# Altium integrated library Renesas Microcontroller R8C.IntLib: 628 symbols (part 12 of 33)
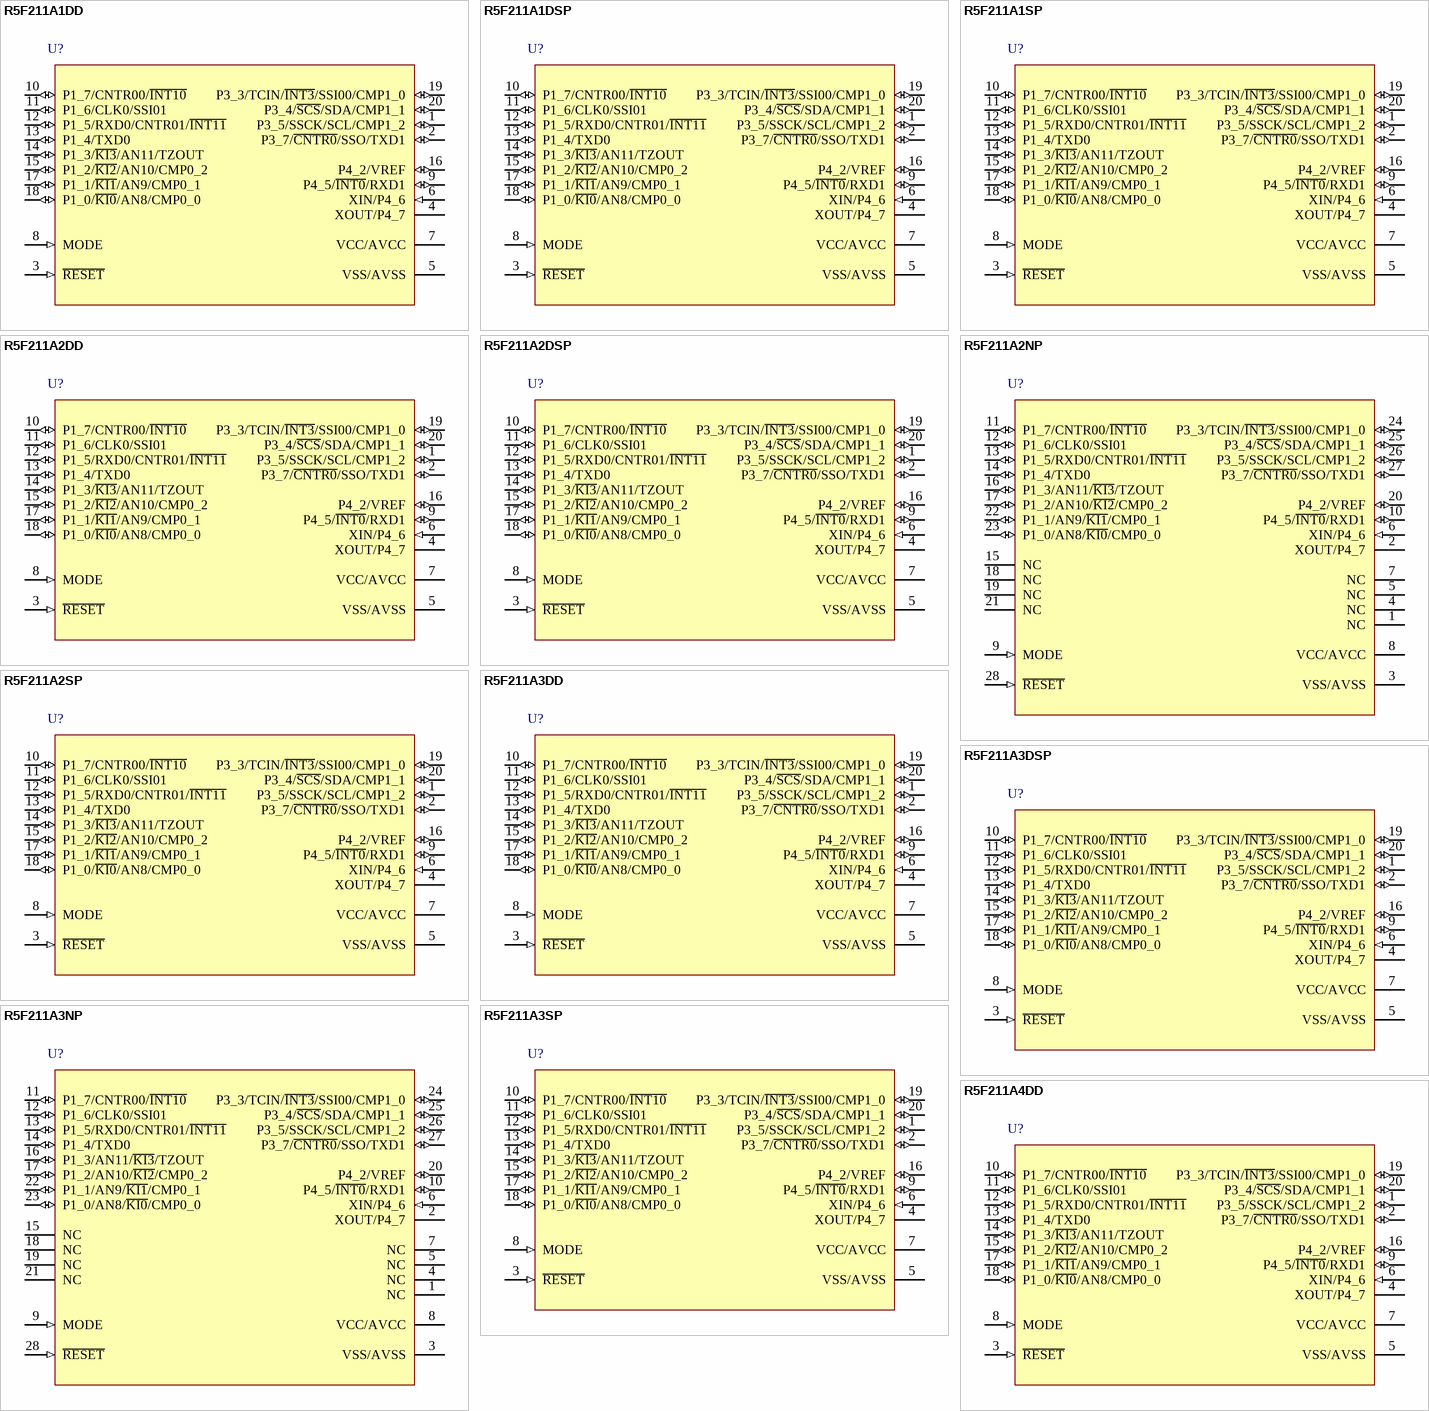
[diagram p127: symbols R5F211A1DD to R5F211A4DD]

## R5F211A2DSP
designator U?
R8C/1A Group Single Chip 16-Bit CMOS MCU, 8K ROM, D Version; Published: 30-Oct-2009; DatasheetVersion: Rev.1.40, Dec-2006; PackageVersion: Sep-2005; PackageReference: PLSP0020JB-A; Publisher: Altium Limited; PackageDescription: 20-Pin Plastic Low Profile Shrink SOP, 6.5 x 4.4 x 1.15 mm Body, 0.65 mm Pitch; Code_JEITA: P-LSSOP20-4.4x6.5-0.65; Code_JEDEC: MO-152-AC; ComponentLink1Description: Manufacturer Link; ComponentLink1URL: http://sg.renesas.com/fmwk.jsp?cnt=r8c_family_landing.jsp&fp=/products/mpumcu/r8c_family/; ComponentLink2Description: Datasheet; ComponentLink2URL: http://documentation.renesas.com/eng/products/mpumcu/rej03b0144_r8c1a1bds.pdf; ComponentLink3Description: Packaging Specification; ComponentLink3URL: http://sg.renesas.com/media/products/common_info/package/pdf/ic/code/plsp0020jb_a.pdf
footprint PLSP0020JB-A_N (SOP, 20-Leads, Body 6.5x4.4mm, Pitch 0.65mm, IPC Medium Density)
footprint PLSP0020JB-A_L (SOP, 20-Leads, Body 6.5x4.4mm, Pitch 0.65mm, IPC High Density)
footprint PLSP0020JB-A_M (SOP, 20-Leads, Body 6.5x4.4mm, Pitch 0.65mm, IPC Low Density)
pins: 1 P3_5/SSCK/SCL/CMP1_2 (io), 2 P3_7/~{CNTR0}/SSO/TXD1 (io), 3 ~{RESET} (in), 4 XOUT/P4_7, 5 VSS/AVSS (power), 6 XIN/P4_6 (in), 7 VCC/AVCC (power), 8 MODE (in), 9 P4_5/~{INT0}/RXD1 (io), 10 P1_7/CNTR00/~{INT10} (io), 11 P1_6/CLK0/SSI01 (io), 12 P1_5/RXD0/CNTR01/~{INT11} (io), 13 P1_4/TXD0 (io), 14 P1_3/~{KI3}/AN11/TZOUT (io), 15 P1_2/~{KI2}/AN10/CMP0_2 (io), 16 P4_2/VREF (io), 17 P1_1/~{KI1}/AN9/CMP0_1 (io), 18 P1_0/~{KI0}/AN8/CMP0_0 (io), 19 P3_3/TCIN/~{INT3}/SSI00/CMP1_0 (io), 20 P3_4/~{SCS}/SDA/CMP1_1 (io)

## R5F211A2NP
designator U?
R8C/1A Group Single Chip 16-Bit CMOS MCU, 8K ROM, Standard Version; Published: 30-Oct-2009; DatasheetVersion: Rev.1.40, Dec-2006; PackageVersion: Jun-2006; PackageReference: PWQN0028KA-B; Publisher: Altium Limited; PackageDescription: 28-Pin Plastic Very-very Thin QFN, 5 x 5 X 0.75 mm Body, 0.5 mm Pitch, Exposed Pad; Code_JEITA: P-HWQFN28-5x5-0.50; ComponentLink1Description: Manufacturer Link; ComponentLink1URL: http://sg.renesas.com/fmwk.jsp?cnt=r8c_family_landing.jsp&fp=/products/mpumcu/r8c_family/; ComponentLink2Description: Datasheet; ComponentLink2URL: http://documentation.renesas.com/eng/products/mpumcu/rej03b0144_r8c1a1bds.pdf; ComponentLink3Description: Packaging Specification; ComponentLink3URL: http://sg.renesas.com/media/products/common_info/package/pdf/ic/code/pwqn0028ka_b.pdf
footprint PWQN0028KA-B_N (QFN, 28-Leads, Body 5x5mm, Pitch 0.5mm, IPC Medium Density)
footprint PWQN0028KA-B_L (QFN, 28-Leads, Body 5x5mm, Pitch 0.5mm, IPC High Density)
footprint PWQN0028KA-B_M (QFN, 28-Leads, Body 5x5mm, Pitch 0.5mm, IPC Low Density)
pins: 1 NC, 2 XOUT/P4_7, 3 VSS/AVSS (power), 4 NC, 5 NC, 6 XIN/P4_6 (in), 7 NC, 8 VCC/AVCC (power), 9 MODE (in), 10 P4_5/~{INT0}/RXD1 (io), 11 P1_7/CNTR00/~{INT10} (io), 12 P1_6/CLK0/SSI01 (io), 13 P1_5/RXD0/CNTR01/~{INT11} (io), 14 P1_4/TXD0 (io), 15 NC, 16 P1_3/AN11/~{KI3}/TZOUT (io), 17 P1_2/AN10/~{KI2}/CMP0_2 (io), 18 NC, 19 NC, 20 P4_2/VREF (io), 21 NC, 22 P1_1/AN9/~{KI1}/CMP0_1 (io), 23 P1_0/AN8/~{KI0}/CMP0_0 (io), 24 P3_3/TCIN/~{INT3}/SSI00/CMP1_0 (io), 25 P3_4/~{SCS}/SDA/CMP1_1 (io), 26 P3_5/SSCK/SCL/CMP1_2 (io), 27 P3_7/~{CNTR0}/SSO/TXD1 (io), 28 ~{RESET} (in)

## R5F211A2SP
designator U?
R8C/1A Group Single Chip 16-Bit CMOS MCU, 8K ROM, Standard Version; Published: 30-Oct-2009; DatasheetVersion: Rev.1.40, Dec-2006; PackageVersion: Sep-2005; PackageReference: PLSP0020JB-A; Publisher: Altium Limited; PackageDescription: 20-Pin Plastic Low Profile Shrink SOP, 6.5 x 4.4 x 1.15 mm Body, 0.65 mm Pitch; Code_JEITA: P-LSSOP20-4.4x6.5-0.65; Code_JEDEC: MO-152-AC; ComponentLink1Description: Manufacturer Link; ComponentLink1URL: http://sg.renesas.com/fmwk.jsp?cnt=r8c_family_landing.jsp&fp=/products/mpumcu/r8c_family/; ComponentLink2Description: Datasheet; ComponentLink2URL: http://documentation.renesas.com/eng/products/mpumcu/rej03b0144_r8c1a1bds.pdf; ComponentLink3Description: Packaging Specification; ComponentLink3URL: http://sg.renesas.com/media/products/common_info/package/pdf/ic/code/plsp0020jb_a.pdf
footprint PLSP0020JB-A_N (SOP, 20-Leads, Body 6.5x4.4mm, Pitch 0.65mm, IPC Medium Density)
footprint PLSP0020JB-A_L (SOP, 20-Leads, Body 6.5x4.4mm, Pitch 0.65mm, IPC High Density)
footprint PLSP0020JB-A_M (SOP, 20-Leads, Body 6.5x4.4mm, Pitch 0.65mm, IPC Low Density)
pins: 1 P3_5/SSCK/SCL/CMP1_2 (io), 2 P3_7/~{CNTR0}/SSO/TXD1 (io), 3 ~{RESET} (in), 4 XOUT/P4_7, 5 VSS/AVSS (power), 6 XIN/P4_6 (in), 7 VCC/AVCC (power), 8 MODE (in), 9 P4_5/~{INT0}/RXD1 (io), 10 P1_7/CNTR00/~{INT10} (io), 11 P1_6/CLK0/SSI01 (io), 12 P1_5/RXD0/CNTR01/~{INT11} (io), 13 P1_4/TXD0 (io), 14 P1_3/~{KI3}/AN11/TZOUT (io), 15 P1_2/~{KI2}/AN10/CMP0_2 (io), 16 P4_2/VREF (io), 17 P1_1/~{KI1}/AN9/CMP0_1 (io), 18 P1_0/~{KI0}/AN8/CMP0_0 (io), 19 P3_3/TCIN/~{INT3}/SSI00/CMP1_0 (io), 20 P3_4/~{SCS}/SDA/CMP1_1 (io)

## R5F211A3DD
designator U?
R8C/1A Group Single Chip 16-Bit CMOS MCU, 12K ROM, Standard Version; Published: 30-Oct-2009; DatasheetVersion: Rev.1.40, Dec-2006; PackageVersion: Sep-2005; PackageReference: PRDP0020BA-A; Publisher: Altium Limited; PackageDescription: 20-Pin Plastic Shrink DIP, 19 x 6.3 mm Body, 7.62 mm Row Spacing, 1.778 mm Pitch; Code_JEITA: P-SDIP20-6.3x19-1.78; ComponentLink1Description: Manufacturer Link; ComponentLink1URL: http://sg.renesas.com/fmwk.jsp?cnt=r8c_family_landing.jsp&fp=/products/mpumcu/r8c_family/; ComponentLink2Description: Datasheet; ComponentLink2URL: http://documentation.renesas.com/eng/products/mpumcu/rej03b0144_r8c1a1bds.pdf; ComponentLink3Description: Packaging Specification; ComponentLink3URL: http://sg.renesas.com/media/products/common_info/package/pdf/ic/code/prdp0020ba_a.pdf
footprint PRDP0020BA-A (DIP, 20-Leads, Row Spacing 7.62mm, Pitch 1.778mm, Body 19x6.3mm)
pins: 1 P3_5/SSCK/SCL/CMP1_2 (io), 2 P3_7/~{CNTR0}/SSO/TXD1 (io), 3 ~{RESET} (in), 4 XOUT/P4_7, 5 VSS/AVSS (power), 6 XIN/P4_6 (in), 7 VCC/AVCC (power), 8 MODE (in), 9 P4_5/~{INT0}/RXD1 (io), 10 P1_7/CNTR00/~{INT10} (io), 11 P1_6/CLK0/SSI01 (io), 12 P1_5/RXD0/CNTR01/~{INT11} (io), 13 P1_4/TXD0 (io), 14 P1_3/~{KI3}/AN11/TZOUT (io), 15 P1_2/~{KI2}/AN10/CMP0_2 (io), 16 P4_2/VREF (io), 17 P1_1/~{KI1}/AN9/CMP0_1 (io), 18 P1_0/~{KI0}/AN8/CMP0_0 (io), 19 P3_3/TCIN/~{INT3}/SSI00/CMP1_0 (io), 20 P3_4/~{SCS}/SDA/CMP1_1 (io)

## R5F211A3DSP
designator U?
R8C/1A Group Single Chip 16-Bit CMOS MCU, 12K ROM, D Version; Published: 30-Oct-2009; DatasheetVersion: Rev.1.40, Dec-2006; PackageVersion: Sep-2005; PackageReference: PLSP0020JB-A; Publisher: Altium Limited; PackageDescription: 20-Pin Plastic Low Profile Shrink SOP, 6.5 x 4.4 x 1.15 mm Body, 0.65 mm Pitch; Code_JEITA: P-LSSOP20-4.4x6.5-0.65; Code_JEDEC: MO-152-AC; ComponentLink1Description: Manufacturer Link; ComponentLink1URL: http://sg.renesas.com/fmwk.jsp?cnt=r8c_family_landing.jsp&fp=/products/mpumcu/r8c_family/; ComponentLink2Description: Datasheet; ComponentLink2URL: http://documentation.renesas.com/eng/products/mpumcu/rej03b0144_r8c1a1bds.pdf; ComponentLink3Description: Packaging Specification; ComponentLink3URL: http://sg.renesas.com/media/products/common_info/package/pdf/ic/code/plsp0020jb_a.pdf
footprint PLSP0020JB-A_N (SOP, 20-Leads, Body 6.5x4.4mm, Pitch 0.65mm, IPC Medium Density)
footprint PLSP0020JB-A_L (SOP, 20-Leads, Body 6.5x4.4mm, Pitch 0.65mm, IPC High Density)
footprint PLSP0020JB-A_M (SOP, 20-Leads, Body 6.5x4.4mm, Pitch 0.65mm, IPC Low Density)
pins: 1 P3_5/SSCK/SCL/CMP1_2 (io), 2 P3_7/~{CNTR0}/SSO/TXD1 (io), 3 ~{RESET} (in), 4 XOUT/P4_7, 5 VSS/AVSS (power), 6 XIN/P4_6 (in), 7 VCC/AVCC (power), 8 MODE (in), 9 P4_5/~{INT0}/RXD1 (io), 10 P1_7/CNTR00/~{INT10} (io), 11 P1_6/CLK0/SSI01 (io), 12 P1_5/RXD0/CNTR01/~{INT11} (io), 13 P1_4/TXD0 (io), 14 P1_3/~{KI3}/AN11/TZOUT (io), 15 P1_2/~{KI2}/AN10/CMP0_2 (io), 16 P4_2/VREF (io), 17 P1_1/~{KI1}/AN9/CMP0_1 (io), 18 P1_0/~{KI0}/AN8/CMP0_0 (io), 19 P3_3/TCIN/~{INT3}/SSI00/CMP1_0 (io), 20 P3_4/~{SCS}/SDA/CMP1_1 (io)

## R5F211A3NP
designator U?
R8C/1A Group Single Chip 16-Bit CMOS MCU, 12K ROM, Standard Version; Published: 30-Oct-2009; DatasheetVersion: Rev.1.40, Dec-2006; PackageVersion: Jun-2006; PackageReference: PWQN0028KA-B; Publisher: Altium Limited; PackageDescription: 28-Pin Plastic Very-very Thin QFN, 5 x 5 X 0.75 mm Body, 0.5 mm Pitch, Exposed Pad; Code_JEITA: P-HWQFN28-5x5-0.50; ComponentLink1Description: Manufacturer Link; ComponentLink1URL: http://sg.renesas.com/fmwk.jsp?cnt=r8c_family_landing.jsp&fp=/products/mpumcu/r8c_family/; ComponentLink2Description: Datasheet; ComponentLink2URL: http://documentation.renesas.com/eng/products/mpumcu/rej03b0144_r8c1a1bds.pdf; ComponentLink3Description: Packaging Specification; ComponentLink3URL: http://sg.renesas.com/media/products/common_info/package/pdf/ic/code/pwqn0028ka_b.pdf
footprint PWQN0028KA-B_N (QFN, 28-Leads, Body 5x5mm, Pitch 0.5mm, IPC Medium Density)
footprint PWQN0028KA-B_L (QFN, 28-Leads, Body 5x5mm, Pitch 0.5mm, IPC High Density)
footprint PWQN0028KA-B_M (QFN, 28-Leads, Body 5x5mm, Pitch 0.5mm, IPC Low Density)
pins: 1 NC, 2 XOUT/P4_7, 3 VSS/AVSS (power), 4 NC, 5 NC, 6 XIN/P4_6 (in), 7 NC, 8 VCC/AVCC (power), 9 MODE (in), 10 P4_5/~{INT0}/RXD1 (io), 11 P1_7/CNTR00/~{INT10} (io), 12 P1_6/CLK0/SSI01 (io), 13 P1_5/RXD0/CNTR01/~{INT11} (io), 14 P1_4/TXD0 (io), 15 NC, 16 P1_3/AN11/~{KI3}/TZOUT (io), 17 P1_2/AN10/~{KI2}/CMP0_2 (io), 18 NC, 19 NC, 20 P4_2/VREF (io), 21 NC, 22 P1_1/AN9/~{KI1}/CMP0_1 (io), 23 P1_0/AN8/~{KI0}/CMP0_0 (io), 24 P3_3/TCIN/~{INT3}/SSI00/CMP1_0 (io), 25 P3_4/~{SCS}/SDA/CMP1_1 (io), 26 P3_5/SSCK/SCL/CMP1_2 (io), 27 P3_7/~{CNTR0}/SSO/TXD1 (io), 28 ~{RESET} (in)

## R5F211A3SP
designator U?
R8C/1A Group Single Chip 16-Bit CMOS MCU, 12K ROM, Standard Version; Published: 30-Oct-2009; DatasheetVersion: Rev.1.40, Dec-2006; PackageVersion: Sep-2005; PackageReference: PLSP0020JB-A; Publisher: Altium Limited; PackageDescription: 20-Pin Plastic Low Profile Shrink SOP, 6.5 x 4.4 x 1.15 mm Body, 0.65 mm Pitch; Code_JEITA: P-LSSOP20-4.4x6.5-0.65; Code_JEDEC: MO-152-AC; ComponentLink1Description: Manufacturer Link; ComponentLink1URL: http://sg.renesas.com/fmwk.jsp?cnt=r8c_family_landing.jsp&fp=/products/mpumcu/r8c_family/; ComponentLink2Description: Datasheet; ComponentLink2URL: http://documentation.renesas.com/eng/products/mpumcu/rej03b0144_r8c1a1bds.pdf; ComponentLink3Description: Packaging Specification; ComponentLink3URL: http://sg.renesas.com/media/products/common_info/package/pdf/ic/code/plsp0020jb_a.pdf
footprint PLSP0020JB-A_N (SOP, 20-Leads, Body 6.5x4.4mm, Pitch 0.65mm, IPC Medium Density)
footprint PLSP0020JB-A_L (SOP, 20-Leads, Body 6.5x4.4mm, Pitch 0.65mm, IPC High Density)
footprint PLSP0020JB-A_M (SOP, 20-Leads, Body 6.5x4.4mm, Pitch 0.65mm, IPC Low Density)
pins: 1 P3_5/SSCK/SCL/CMP1_2 (io), 2 P3_7/~{CNTR0}/SSO/TXD1 (io), 3 ~{RESET} (in), 4 XOUT/P4_7, 5 VSS/AVSS (power), 6 XIN/P4_6 (in), 7 VCC/AVCC (power), 8 MODE (in), 9 P4_5/~{INT0}/RXD1 (io), 10 P1_7/CNTR00/~{INT10} (io), 11 P1_6/CLK0/SSI01 (io), 12 P1_5/RXD0/CNTR01/~{INT11} (io), 13 P1_4/TXD0 (io), 14 P1_3/~{KI3}/AN11/TZOUT (io), 15 P1_2/~{KI2}/AN10/CMP0_2 (io), 16 P4_2/VREF (io), 17 P1_1/~{KI1}/AN9/CMP0_1 (io), 18 P1_0/~{KI0}/AN8/CMP0_0 (io), 19 P3_3/TCIN/~{INT3}/SSI00/CMP1_0 (io), 20 P3_4/~{SCS}/SDA/CMP1_1 (io)

## R5F211A4DD
designator U?
R8C/1A Group Single Chip 16-Bit CMOS MCU, 16K ROM, Standard Version; Published: 30-Oct-2009; DatasheetVersion: Rev.1.40, Dec-2006; PackageVersion: Sep-2005; PackageReference: PRDP0020BA-A; Publisher: Altium Limited; PackageDescription: 20-Pin Plastic Shrink DIP, 19 x 6.3 mm Body, 7.62 mm Row Spacing, 1.778 mm Pitch; Code_JEITA: P-SDIP20-6.3x19-1.78; ComponentLink1Description: Manufacturer Link; ComponentLink1URL: http://sg.renesas.com/fmwk.jsp?cnt=r8c_family_landing.jsp&fp=/products/mpumcu/r8c_family/; ComponentLink2Description: Datasheet; ComponentLink2URL: http://documentation.renesas.com/eng/products/mpumcu/rej03b0144_r8c1a1bds.pdf; ComponentLink3Description: Packaging Specification; ComponentLink3URL: http://sg.renesas.com/media/products/common_info/package/pdf/ic/code/prdp0020ba_a.pdf
footprint PRDP0020BA-A (DIP, 20-Leads, Row Spacing 7.62mm, Pitch 1.778mm, Body 19x6.3mm)
pins: 1 P3_5/SSCK/SCL/CMP1_2 (io), 2 P3_7/~{CNTR0}/SSO/TXD1 (io), 3 ~{RESET} (in), 4 XOUT/P4_7, 5 VSS/AVSS (power), 6 XIN/P4_6 (in), 7 VCC/AVCC (power), 8 MODE (in), 9 P4_5/~{INT0}/RXD1 (io), 10 P1_7/CNTR00/~{INT10} (io), 11 P1_6/CLK0/SSI01 (io), 12 P1_5/RXD0/CNTR01/~{INT11} (io), 13 P1_4/TXD0 (io), 14 P1_3/~{KI3}/AN11/TZOUT (io), 15 P1_2/~{KI2}/AN10/CMP0_2 (io), 16 P4_2/VREF (io), 17 P1_1/~{KI1}/AN9/CMP0_1 (io), 18 P1_0/~{KI0}/AN8/CMP0_0 (io), 19 P3_3/TCIN/~{INT3}/SSI00/CMP1_0 (io), 20 P3_4/~{SCS}/SDA/CMP1_1 (io)

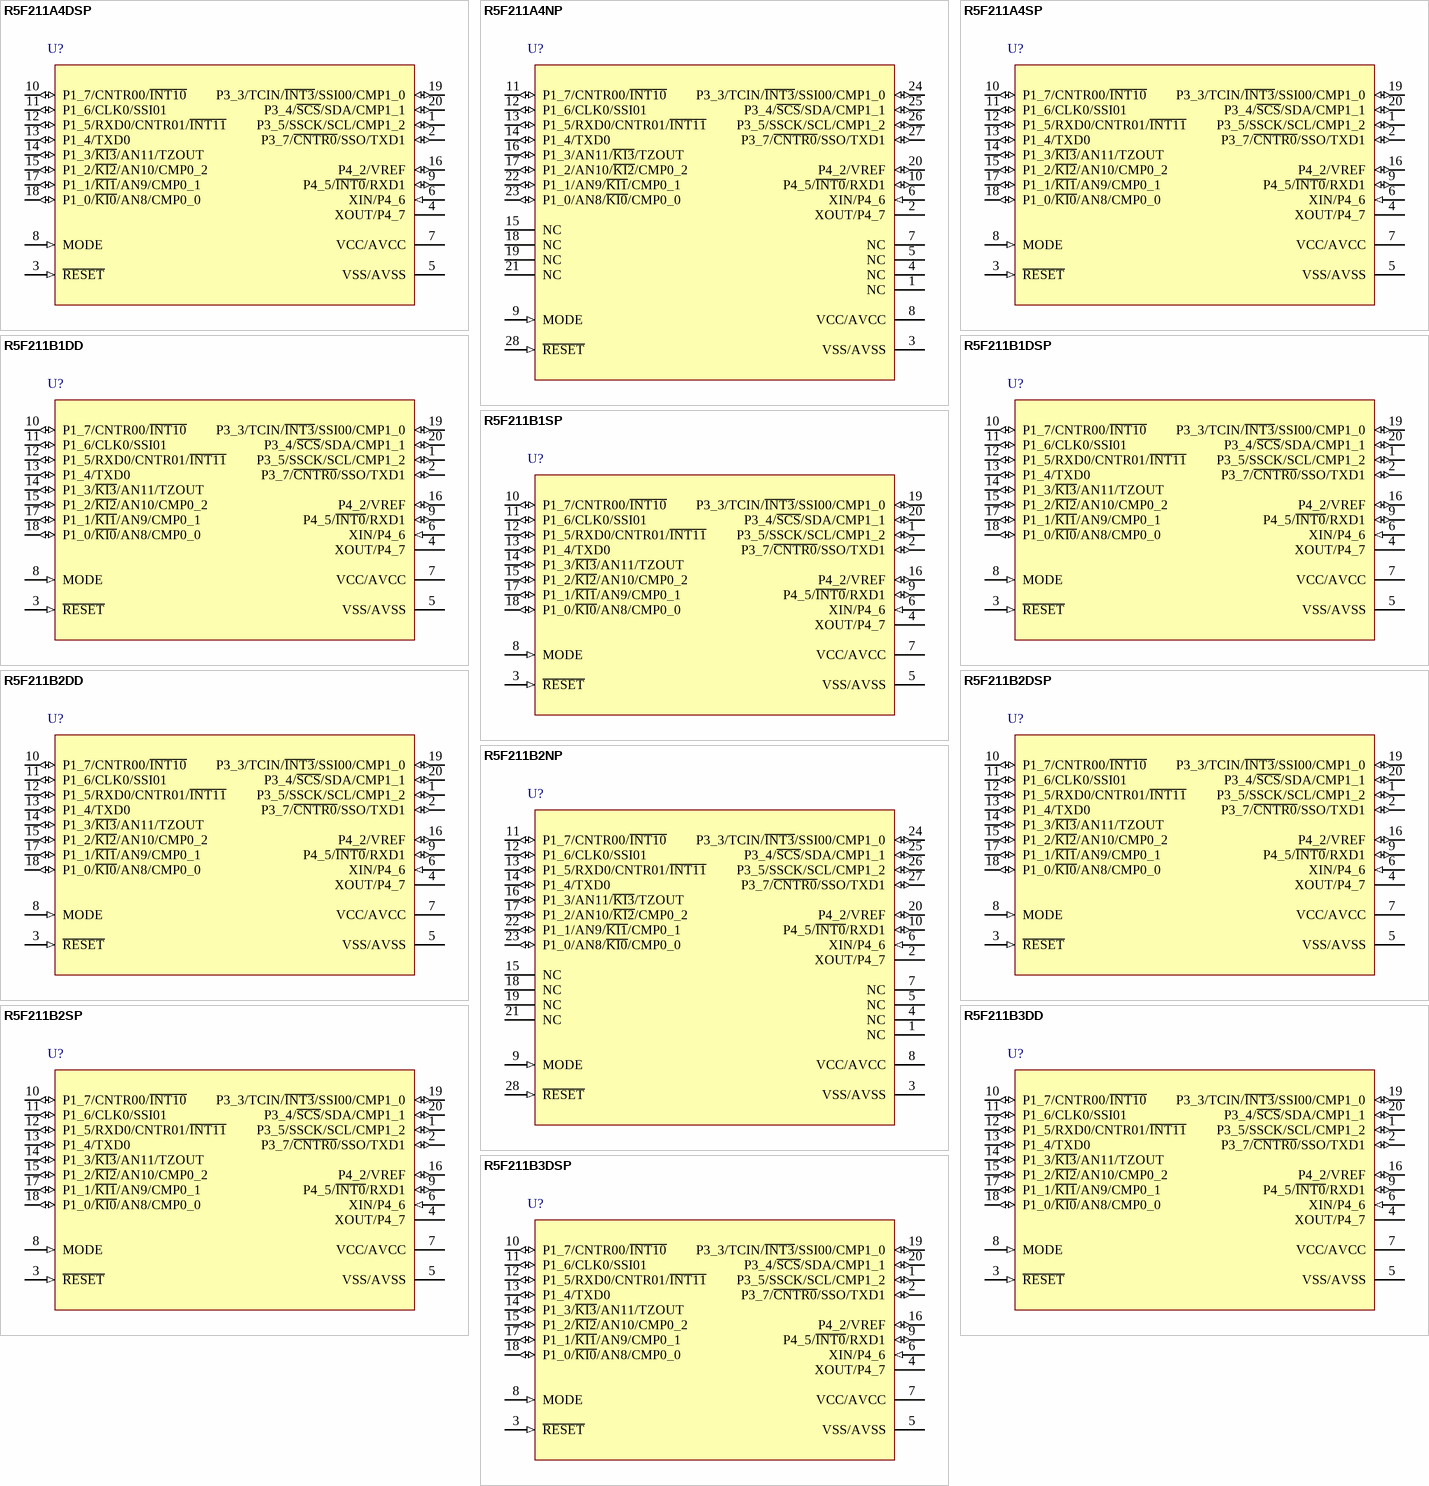
[diagram p43: symbols R5F211A4DSP to R5F211B3DSP]

## R5F211A4DSP
designator U?
R8C/1A Group Single Chip 16-Bit CMOS MCU, 16K ROM, D Version; Published: 30-Oct-2009; DatasheetVersion: Rev.1.40, Dec-2006; PackageVersion: Sep-2005; PackageReference: PLSP0020JB-A; Publisher: Altium Limited; PackageDescription: 20-Pin Plastic Low Profile Shrink SOP, 6.5 x 4.4 x 1.15 mm Body, 0.65 mm Pitch; Code_JEITA: P-LSSOP20-4.4x6.5-0.65; Code_JEDEC: MO-152-AC; ComponentLink1Description: Manufacturer Link; ComponentLink1URL: http://sg.renesas.com/fmwk.jsp?cnt=r8c_family_landing.jsp&fp=/products/mpumcu/r8c_family/; ComponentLink2Description: Datasheet; ComponentLink2URL: http://documentation.renesas.com/eng/products/mpumcu/rej03b0144_r8c1a1bds.pdf; ComponentLink3Description: Packaging Specification; ComponentLink3URL: http://sg.renesas.com/media/products/common_info/package/pdf/ic/code/plsp0020jb_a.pdf
footprint PLSP0020JB-A_N (SOP, 20-Leads, Body 6.5x4.4mm, Pitch 0.65mm, IPC Medium Density)
footprint PLSP0020JB-A_L (SOP, 20-Leads, Body 6.5x4.4mm, Pitch 0.65mm, IPC High Density)
footprint PLSP0020JB-A_M (SOP, 20-Leads, Body 6.5x4.4mm, Pitch 0.65mm, IPC Low Density)
pins: 1 P3_5/SSCK/SCL/CMP1_2 (io), 2 P3_7/~{CNTR0}/SSO/TXD1 (io), 3 ~{RESET} (in), 4 XOUT/P4_7, 5 VSS/AVSS (power), 6 XIN/P4_6 (in), 7 VCC/AVCC (power), 8 MODE (in), 9 P4_5/~{INT0}/RXD1 (io), 10 P1_7/CNTR00/~{INT10} (io), 11 P1_6/CLK0/SSI01 (io), 12 P1_5/RXD0/CNTR01/~{INT11} (io), 13 P1_4/TXD0 (io), 14 P1_3/~{KI3}/AN11/TZOUT (io), 15 P1_2/~{KI2}/AN10/CMP0_2 (io), 16 P4_2/VREF (io), 17 P1_1/~{KI1}/AN9/CMP0_1 (io), 18 P1_0/~{KI0}/AN8/CMP0_0 (io), 19 P3_3/TCIN/~{INT3}/SSI00/CMP1_0 (io), 20 P3_4/~{SCS}/SDA/CMP1_1 (io)

## R5F211A4NP
designator U?
R8C/1A Group Single Chip 16-Bit CMOS MCU, 16K ROM, Standard Version; Published: 30-Oct-2009; DatasheetVersion: Rev.1.40, Dec-2006; PackageVersion: Jun-2006; PackageReference: PWQN0028KA-B; Publisher: Altium Limited; PackageDescription: 28-Pin Plastic Very-very Thin QFN, 5 x 5 X 0.75 mm Body, 0.5 mm Pitch, Exposed Pad; Code_JEITA: P-HWQFN28-5x5-0.50; ComponentLink1Description: Manufacturer Link; ComponentLink1URL: http://sg.renesas.com/fmwk.jsp?cnt=r8c_family_landing.jsp&fp=/products/mpumcu/r8c_family/; ComponentLink2Description: Datasheet; ComponentLink2URL: http://documentation.renesas.com/eng/products/mpumcu/rej03b0144_r8c1a1bds.pdf; ComponentLink3Description: Packaging Specification; ComponentLink3URL: http://sg.renesas.com/media/products/common_info/package/pdf/ic/code/pwqn0028ka_b.pdf
footprint PWQN0028KA-B_N (QFN, 28-Leads, Body 5x5mm, Pitch 0.5mm, IPC Medium Density)
footprint PWQN0028KA-B_L (QFN, 28-Leads, Body 5x5mm, Pitch 0.5mm, IPC High Density)
footprint PWQN0028KA-B_M (QFN, 28-Leads, Body 5x5mm, Pitch 0.5mm, IPC Low Density)
pins: 1 NC, 2 XOUT/P4_7, 3 VSS/AVSS (power), 4 NC, 5 NC, 6 XIN/P4_6 (in), 7 NC, 8 VCC/AVCC (power), 9 MODE (in), 10 P4_5/~{INT0}/RXD1 (io), 11 P1_7/CNTR00/~{INT10} (io), 12 P1_6/CLK0/SSI01 (io), 13 P1_5/RXD0/CNTR01/~{INT11} (io), 14 P1_4/TXD0 (io), 15 NC, 16 P1_3/AN11/~{KI3}/TZOUT (io), 17 P1_2/AN10/~{KI2}/CMP0_2 (io), 18 NC, 19 NC, 20 P4_2/VREF (io), 21 NC, 22 P1_1/AN9/~{KI1}/CMP0_1 (io), 23 P1_0/AN8/~{KI0}/CMP0_0 (io), 24 P3_3/TCIN/~{INT3}/SSI00/CMP1_0 (io), 25 P3_4/~{SCS}/SDA/CMP1_1 (io), 26 P3_5/SSCK/SCL/CMP1_2 (io), 27 P3_7/~{CNTR0}/SSO/TXD1 (io), 28 ~{RESET} (in)

## R5F211A4SP
designator U?
R8C/1A Group Single Chip 16-Bit CMOS MCU, 16K ROM, Standard Version; Published: 30-Oct-2009; DatasheetVersion: Rev.1.40, Dec-2006; PackageVersion: Sep-2005; PackageReference: PLSP0020JB-A; Publisher: Altium Limited; PackageDescription: 20-Pin Plastic Low Profile Shrink SOP, 6.5 x 4.4 x 1.15 mm Body, 0.65 mm Pitch; Code_JEITA: P-LSSOP20-4.4x6.5-0.65; Code_JEDEC: MO-152-AC; ComponentLink1Description: Manufacturer Link; ComponentLink1URL: http://sg.renesas.com/fmwk.jsp?cnt=r8c_family_landing.jsp&fp=/products/mpumcu/r8c_family/; ComponentLink2Description: Datasheet; ComponentLink2URL: http://documentation.renesas.com/eng/products/mpumcu/rej03b0144_r8c1a1bds.pdf; ComponentLink3Description: Packaging Specification; ComponentLink3URL: http://sg.renesas.com/media/products/common_info/package/pdf/ic/code/plsp0020jb_a.pdf
footprint PLSP0020JB-A_N (SOP, 20-Leads, Body 6.5x4.4mm, Pitch 0.65mm, IPC Medium Density)
footprint PLSP0020JB-A_L (SOP, 20-Leads, Body 6.5x4.4mm, Pitch 0.65mm, IPC High Density)
footprint PLSP0020JB-A_M (SOP, 20-Leads, Body 6.5x4.4mm, Pitch 0.65mm, IPC Low Density)
pins: 1 P3_5/SSCK/SCL/CMP1_2 (io), 2 P3_7/~{CNTR0}/SSO/TXD1 (io), 3 ~{RESET} (in), 4 XOUT/P4_7, 5 VSS/AVSS (power), 6 XIN/P4_6 (in), 7 VCC/AVCC (power), 8 MODE (in), 9 P4_5/~{INT0}/RXD1 (io), 10 P1_7/CNTR00/~{INT10} (io), 11 P1_6/CLK0/SSI01 (io), 12 P1_5/RXD0/CNTR01/~{INT11} (io), 13 P1_4/TXD0 (io), 14 P1_3/~{KI3}/AN11/TZOUT (io), 15 P1_2/~{KI2}/AN10/CMP0_2 (io), 16 P4_2/VREF (io), 17 P1_1/~{KI1}/AN9/CMP0_1 (io), 18 P1_0/~{KI0}/AN8/CMP0_0 (io), 19 P3_3/TCIN/~{INT3}/SSI00/CMP1_0 (io), 20 P3_4/~{SCS}/SDA/CMP1_1 (io)

## R5F211B1DD
designator U?
R8C/1B Group Single Chip 16-Bit CMOS MCU, 4K ROM, Standard Version; Published: 30-Oct-2009; DatasheetVersion: Rev.1.40, Dec-2006; PackageVersion: Sep-2005; PackageReference: PRDP0020BA-A; Publisher: Altium Limited; PackageDescription: 20-Pin Plastic Shrink DIP, 19 x 6.3 mm Body, 7.62 mm Row Spacing, 1.778 mm Pitch; Code_JEITA: P-SDIP20-6.3x19-1.78; ComponentLink1Description: Manufacturer Link; ComponentLink1URL: http://sg.renesas.com/fmwk.jsp?cnt=r8c_family_landing.jsp&fp=/products/mpumcu/r8c_family/; ComponentLink2Description: Datasheet; ComponentLink2URL: http://documentation.renesas.com/eng/products/mpumcu/rej03b0144_r8c1a1bds.pdf; ComponentLink3Description: Packaging Specification; ComponentLink3URL: http://sg.renesas.com/media/products/common_info/package/pdf/ic/code/prdp0020ba_a.pdf
footprint PRDP0020BA-A (DIP, 20-Leads, Row Spacing 7.62mm, Pitch 1.778mm, Body 19x6.3mm)
pins: 1 P3_5/SSCK/SCL/CMP1_2 (io), 2 P3_7/~{CNTR0}/SSO/TXD1 (io), 3 ~{RESET} (in), 4 XOUT/P4_7, 5 VSS/AVSS (power), 6 XIN/P4_6 (in), 7 VCC/AVCC (power), 8 MODE (in), 9 P4_5/~{INT0}/RXD1 (io), 10 P1_7/CNTR00/~{INT10} (io), 11 P1_6/CLK0/SSI01 (io), 12 P1_5/RXD0/CNTR01/~{INT11} (io), 13 P1_4/TXD0 (io), 14 P1_3/~{KI3}/AN11/TZOUT (io), 15 P1_2/~{KI2}/AN10/CMP0_2 (io), 16 P4_2/VREF (io), 17 P1_1/~{KI1}/AN9/CMP0_1 (io), 18 P1_0/~{KI0}/AN8/CMP0_0 (io), 19 P3_3/TCIN/~{INT3}/SSI00/CMP1_0 (io), 20 P3_4/~{SCS}/SDA/CMP1_1 (io)

## R5F211B1DSP
designator U?
R8C/1B Group Single Chip 16-Bit CMOS MCU, 4K ROM, D Version; Published: 30-Oct-2009; DatasheetVersion: Rev.1.40, Dec-2006; PackageVersion: Sep-2005; PackageReference: PLSP0020JB-A; Publisher: Altium Limited; PackageDescription: 20-Pin Plastic Low Profile Shrink SOP, 6.5 x 4.4 x 1.15 mm Body, 0.65 mm Pitch; Code_JEITA: P-LSSOP20-4.4x6.5-0.65; Code_JEDEC: MO-152-AC; ComponentLink1Description: Manufacturer Link; ComponentLink1URL: http://sg.renesas.com/fmwk.jsp?cnt=r8c_family_landing.jsp&fp=/products/mpumcu/r8c_family/; ComponentLink2Description: Datasheet; ComponentLink2URL: http://documentation.renesas.com/eng/products/mpumcu/rej03b0144_r8c1a1bds.pdf; ComponentLink3Description: Packaging Specification; ComponentLink3URL: http://sg.renesas.com/media/products/common_info/package/pdf/ic/code/plsp0020jb_a.pdf
footprint PLSP0020JB-A_N (SOP, 20-Leads, Body 6.5x4.4mm, Pitch 0.65mm, IPC Medium Density)
footprint PLSP0020JB-A_L (SOP, 20-Leads, Body 6.5x4.4mm, Pitch 0.65mm, IPC High Density)
footprint PLSP0020JB-A_M (SOP, 20-Leads, Body 6.5x4.4mm, Pitch 0.65mm, IPC Low Density)
pins: 1 P3_5/SSCK/SCL/CMP1_2 (io), 2 P3_7/~{CNTR0}/SSO/TXD1 (io), 3 ~{RESET} (in), 4 XOUT/P4_7, 5 VSS/AVSS (power), 6 XIN/P4_6 (in), 7 VCC/AVCC (power), 8 MODE (in), 9 P4_5/~{INT0}/RXD1 (io), 10 P1_7/CNTR00/~{INT10} (io), 11 P1_6/CLK0/SSI01 (io), 12 P1_5/RXD0/CNTR01/~{INT11} (io), 13 P1_4/TXD0 (io), 14 P1_3/~{KI3}/AN11/TZOUT (io), 15 P1_2/~{KI2}/AN10/CMP0_2 (io), 16 P4_2/VREF (io), 17 P1_1/~{KI1}/AN9/CMP0_1 (io), 18 P1_0/~{KI0}/AN8/CMP0_0 (io), 19 P3_3/TCIN/~{INT3}/SSI00/CMP1_0 (io), 20 P3_4/~{SCS}/SDA/CMP1_1 (io)

## R5F211B1SP
designator U?
R8C/1B Group Single Chip 16-Bit CMOS MCU, 4K ROM, Standard Version; Published: 30-Oct-2009; DatasheetVersion: Rev.1.40, Dec-2006; PackageVersion: Sep-2005; PackageReference: PLSP0020JB-A; Publisher: Altium Limited; PackageDescription: 20-Pin Plastic Low Profile Shrink SOP, 6.5 x 4.4 x 1.15 mm Body, 0.65 mm Pitch; Code_JEITA: P-LSSOP20-4.4x6.5-0.65; Code_JEDEC: MO-152-AC; ComponentLink1Description: Manufacturer Link; ComponentLink1URL: http://sg.renesas.com/fmwk.jsp?cnt=r8c_family_landing.jsp&fp=/products/mpumcu/r8c_family/; ComponentLink2Description: Datasheet; ComponentLink2URL: http://documentation.renesas.com/eng/products/mpumcu/rej03b0144_r8c1a1bds.pdf; ComponentLink3Description: Packaging Specification; ComponentLink3URL: http://sg.renesas.com/media/products/common_info/package/pdf/ic/code/plsp0020jb_a.pdf
footprint PLSP0020JB-A_N (SOP, 20-Leads, Body 6.5x4.4mm, Pitch 0.65mm, IPC Medium Density)
footprint PLSP0020JB-A_L (SOP, 20-Leads, Body 6.5x4.4mm, Pitch 0.65mm, IPC High Density)
footprint PLSP0020JB-A_M (SOP, 20-Leads, Body 6.5x4.4mm, Pitch 0.65mm, IPC Low Density)
pins: 1 P3_5/SSCK/SCL/CMP1_2 (io), 2 P3_7/~{CNTR0}/SSO/TXD1 (io), 3 ~{RESET} (in), 4 XOUT/P4_7, 5 VSS/AVSS (power), 6 XIN/P4_6 (in), 7 VCC/AVCC (power), 8 MODE (in), 9 P4_5/~{INT0}/RXD1 (io), 10 P1_7/CNTR00/~{INT10} (io), 11 P1_6/CLK0/SSI01 (io), 12 P1_5/RXD0/CNTR01/~{INT11} (io), 13 P1_4/TXD0 (io), 14 P1_3/~{KI3}/AN11/TZOUT (io), 15 P1_2/~{KI2}/AN10/CMP0_2 (io), 16 P4_2/VREF (io), 17 P1_1/~{KI1}/AN9/CMP0_1 (io), 18 P1_0/~{KI0}/AN8/CMP0_0 (io), 19 P3_3/TCIN/~{INT3}/SSI00/CMP1_0 (io), 20 P3_4/~{SCS}/SDA/CMP1_1 (io)

## R5F211B2DD
designator U?
R8C/1B Group Single Chip 16-Bit CMOS MCU, 8K ROM, Standard Version; Published: 30-Oct-2009; DatasheetVersion: Rev.1.40, Dec-2006; PackageVersion: Sep-2005; PackageReference: PRDP0020BA-A; Publisher: Altium Limited; PackageDescription: 20-Pin Plastic Shrink DIP, 19 x 6.3 mm Body, 7.62 mm Row Spacing, 1.778 mm Pitch; Code_JEITA: P-SDIP20-6.3x19-1.78; ComponentLink1Description: Manufacturer Link; ComponentLink1URL: http://sg.renesas.com/fmwk.jsp?cnt=r8c_family_landing.jsp&fp=/products/mpumcu/r8c_family/; ComponentLink2Description: Datasheet; ComponentLink2URL: http://documentation.renesas.com/eng/products/mpumcu/rej03b0144_r8c1a1bds.pdf; ComponentLink3Description: Packaging Specification; ComponentLink3URL: http://sg.renesas.com/media/products/common_info/package/pdf/ic/code/prdp0020ba_a.pdf
footprint PRDP0020BA-A (DIP, 20-Leads, Row Spacing 7.62mm, Pitch 1.778mm, Body 19x6.3mm)
pins: 1 P3_5/SSCK/SCL/CMP1_2 (io), 2 P3_7/~{CNTR0}/SSO/TXD1 (io), 3 ~{RESET} (in), 4 XOUT/P4_7, 5 VSS/AVSS (power), 6 XIN/P4_6 (in), 7 VCC/AVCC (power), 8 MODE (in), 9 P4_5/~{INT0}/RXD1 (io), 10 P1_7/CNTR00/~{INT10} (io), 11 P1_6/CLK0/SSI01 (io), 12 P1_5/RXD0/CNTR01/~{INT11} (io), 13 P1_4/TXD0 (io), 14 P1_3/~{KI3}/AN11/TZOUT (io), 15 P1_2/~{KI2}/AN10/CMP0_2 (io), 16 P4_2/VREF (io), 17 P1_1/~{KI1}/AN9/CMP0_1 (io), 18 P1_0/~{KI0}/AN8/CMP0_0 (io), 19 P3_3/TCIN/~{INT3}/SSI00/CMP1_0 (io), 20 P3_4/~{SCS}/SDA/CMP1_1 (io)

## R5F211B2DSP
designator U?
R8C/1B Group Single Chip 16-Bit CMOS MCU, 8K ROM, D Version; Published: 30-Oct-2009; DatasheetVersion: Rev.1.40, Dec-2006; PackageVersion: Sep-2005; PackageReference: PLSP0020JB-A; Publisher: Altium Limited; PackageDescription: 20-Pin Plastic Low Profile Shrink SOP, 6.5 x 4.4 x 1.15 mm Body, 0.65 mm Pitch; Code_JEITA: P-LSSOP20-4.4x6.5-0.65; Code_JEDEC: MO-152-AC; ComponentLink1Description: Manufacturer Link; ComponentLink1URL: http://sg.renesas.com/fmwk.jsp?cnt=r8c_family_landing.jsp&fp=/products/mpumcu/r8c_family/; ComponentLink2Description: Datasheet; ComponentLink2URL: http://documentation.renesas.com/eng/products/mpumcu/rej03b0144_r8c1a1bds.pdf; ComponentLink3Description: Packaging Specification; ComponentLink3URL: http://sg.renesas.com/media/products/common_info/package/pdf/ic/code/plsp0020jb_a.pdf
footprint PLSP0020JB-A_N (SOP, 20-Leads, Body 6.5x4.4mm, Pitch 0.65mm, IPC Medium Density)
footprint PLSP0020JB-A_L (SOP, 20-Leads, Body 6.5x4.4mm, Pitch 0.65mm, IPC High Density)
footprint PLSP0020JB-A_M (SOP, 20-Leads, Body 6.5x4.4mm, Pitch 0.65mm, IPC Low Density)
pins: 1 P3_5/SSCK/SCL/CMP1_2 (io), 2 P3_7/~{CNTR0}/SSO/TXD1 (io), 3 ~{RESET} (in), 4 XOUT/P4_7, 5 VSS/AVSS (power), 6 XIN/P4_6 (in), 7 VCC/AVCC (power), 8 MODE (in), 9 P4_5/~{INT0}/RXD1 (io), 10 P1_7/CNTR00/~{INT10} (io), 11 P1_6/CLK0/SSI01 (io), 12 P1_5/RXD0/CNTR01/~{INT11} (io), 13 P1_4/TXD0 (io), 14 P1_3/~{KI3}/AN11/TZOUT (io), 15 P1_2/~{KI2}/AN10/CMP0_2 (io), 16 P4_2/VREF (io), 17 P1_1/~{KI1}/AN9/CMP0_1 (io), 18 P1_0/~{KI0}/AN8/CMP0_0 (io), 19 P3_3/TCIN/~{INT3}/SSI00/CMP1_0 (io), 20 P3_4/~{SCS}/SDA/CMP1_1 (io)

## R5F211B2NP
designator U?
R8C/1B Group Single Chip 16-Bit CMOS MCU, 8K ROM, Standard Version; Published: 30-Oct-2009; DatasheetVersion: Rev.1.40, Dec-2006; PackageVersion: Jun-2006; PackageReference: PWQN0028KA-B; Publisher: Altium Limited; PackageDescription: 28-Pin Plastic Very-very Thin QFN, 5 x 5 X 0.75 mm Body, 0.5 mm Pitch, Exposed Pad; Code_JEITA: P-HWQFN28-5x5-0.50; ComponentLink1Description: Manufacturer Link; ComponentLink1URL: http://sg.renesas.com/fmwk.jsp?cnt=r8c_family_landing.jsp&fp=/products/mpumcu/r8c_family/; ComponentLink2Description: Datasheet; ComponentLink2URL: http://documentation.renesas.com/eng/products/mpumcu/rej03b0144_r8c1a1bds.pdf; ComponentLink3Description: Packaging Specification; ComponentLink3URL: http://sg.renesas.com/media/products/common_info/package/pdf/ic/code/pwqn0028ka_b.pdf
footprint PWQN0028KA-B_N (QFN, 28-Leads, Body 5x5mm, Pitch 0.5mm, IPC Medium Density)
footprint PWQN0028KA-B_L (QFN, 28-Leads, Body 5x5mm, Pitch 0.5mm, IPC High Density)
footprint PWQN0028KA-B_M (QFN, 28-Leads, Body 5x5mm, Pitch 0.5mm, IPC Low Density)
pins: 1 NC, 2 XOUT/P4_7, 3 VSS/AVSS (power), 4 NC, 5 NC, 6 XIN/P4_6 (in), 7 NC, 8 VCC/AVCC (power), 9 MODE (in), 10 P4_5/~{INT0}/RXD1 (io), 11 P1_7/CNTR00/~{INT10} (io), 12 P1_6/CLK0/SSI01 (io), 13 P1_5/RXD0/CNTR01/~{INT11} (io), 14 P1_4/TXD0 (io), 15 NC, 16 P1_3/AN11/~{KI3}/TZOUT (io), 17 P1_2/AN10/~{KI2}/CMP0_2 (io), 18 NC, 19 NC, 20 P4_2/VREF (io), 21 NC, 22 P1_1/AN9/~{KI1}/CMP0_1 (io), 23 P1_0/AN8/~{KI0}/CMP0_0 (io), 24 P3_3/TCIN/~{INT3}/SSI00/CMP1_0 (io), 25 P3_4/~{SCS}/SDA/CMP1_1 (io), 26 P3_5/SSCK/SCL/CMP1_2 (io), 27 P3_7/~{CNTR0}/SSO/TXD1 (io), 28 ~{RESET} (in)

## R5F211B2SP
designator U?
R8C/1B Group Single Chip 16-Bit CMOS MCU, 8K ROM, Standard Version; Published: 30-Oct-2009; DatasheetVersion: Rev.1.40, Dec-2006; PackageVersion: Sep-2005; PackageReference: PLSP0020JB-A; Publisher: Altium Limited; PackageDescription: 20-Pin Plastic Low Profile Shrink SOP, 6.5 x 4.4 x 1.15 mm Body, 0.65 mm Pitch; Code_JEITA: P-LSSOP20-4.4x6.5-0.65; Code_JEDEC: MO-152-AC; ComponentLink1Description: Manufacturer Link; ComponentLink1URL: http://sg.renesas.com/fmwk.jsp?cnt=r8c_family_landing.jsp&fp=/products/mpumcu/r8c_family/; ComponentLink2Description: Datasheet; ComponentLink2URL: http://documentation.renesas.com/eng/products/mpumcu/rej03b0144_r8c1a1bds.pdf; ComponentLink3Description: Packaging Specification; ComponentLink3URL: http://sg.renesas.com/media/products/common_info/package/pdf/ic/code/plsp0020jb_a.pdf
footprint PLSP0020JB-A_N (SOP, 20-Leads, Body 6.5x4.4mm, Pitch 0.65mm, IPC Medium Density)
footprint PLSP0020JB-A_L (SOP, 20-Leads, Body 6.5x4.4mm, Pitch 0.65mm, IPC High Density)
footprint PLSP0020JB-A_M (SOP, 20-Leads, Body 6.5x4.4mm, Pitch 0.65mm, IPC Low Density)
pins: 1 P3_5/SSCK/SCL/CMP1_2 (io), 2 P3_7/~{CNTR0}/SSO/TXD1 (io), 3 ~{RESET} (in), 4 XOUT/P4_7, 5 VSS/AVSS (power), 6 XIN/P4_6 (in), 7 VCC/AVCC (power), 8 MODE (in), 9 P4_5/~{INT0}/RXD1 (io), 10 P1_7/CNTR00/~{INT10} (io), 11 P1_6/CLK0/SSI01 (io), 12 P1_5/RXD0/CNTR01/~{INT11} (io), 13 P1_4/TXD0 (io), 14 P1_3/~{KI3}/AN11/TZOUT (io), 15 P1_2/~{KI2}/AN10/CMP0_2 (io), 16 P4_2/VREF (io), 17 P1_1/~{KI1}/AN9/CMP0_1 (io), 18 P1_0/~{KI0}/AN8/CMP0_0 (io), 19 P3_3/TCIN/~{INT3}/SSI00/CMP1_0 (io), 20 P3_4/~{SCS}/SDA/CMP1_1 (io)

## R5F211B3DD
designator U?
R8C/1B Group Single Chip 16-Bit CMOS MCU, 12K ROM, Standard Version; Published: 30-Oct-2009; DatasheetVersion: Rev.1.40, Dec-2006; PackageVersion: Sep-2005; PackageReference: PRDP0020BA-A; Publisher: Altium Limited; PackageDescription: 20-Pin Plastic Shrink DIP, 19 x 6.3 mm Body, 7.62 mm Row Spacing, 1.778 mm Pitch; Code_JEITA: P-SDIP20-6.3x19-1.78; ComponentLink1Description: Manufacturer Link; ComponentLink1URL: http://sg.renesas.com/fmwk.jsp?cnt=r8c_family_landing.jsp&fp=/products/mpumcu/r8c_family/; ComponentLink2Description: Datasheet; ComponentLink2URL: http://documentation.renesas.com/eng/products/mpumcu/rej03b0144_r8c1a1bds.pdf; ComponentLink3Description: Packaging Specification; ComponentLink3URL: http://sg.renesas.com/media/products/common_info/package/pdf/ic/code/prdp0020ba_a.pdf
footprint PRDP0020BA-A (DIP, 20-Leads, Row Spacing 7.62mm, Pitch 1.778mm, Body 19x6.3mm)
pins: 1 P3_5/SSCK/SCL/CMP1_2 (io), 2 P3_7/~{CNTR0}/SSO/TXD1 (io), 3 ~{RESET} (in), 4 XOUT/P4_7, 5 VSS/AVSS (power), 6 XIN/P4_6 (in), 7 VCC/AVCC (power), 8 MODE (in), 9 P4_5/~{INT0}/RXD1 (io), 10 P1_7/CNTR00/~{INT10} (io), 11 P1_6/CLK0/SSI01 (io), 12 P1_5/RXD0/CNTR01/~{INT11} (io), 13 P1_4/TXD0 (io), 14 P1_3/~{KI3}/AN11/TZOUT (io), 15 P1_2/~{KI2}/AN10/CMP0_2 (io), 16 P4_2/VREF (io), 17 P1_1/~{KI1}/AN9/CMP0_1 (io), 18 P1_0/~{KI0}/AN8/CMP0_0 (io), 19 P3_3/TCIN/~{INT3}/SSI00/CMP1_0 (io), 20 P3_4/~{SCS}/SDA/CMP1_1 (io)

## R5F211B3DSP
designator U?
R8C/1B Group Single Chip 16-Bit CMOS MCU, 12K ROM, D Version; Published: 30-Oct-2009; DatasheetVersion: Rev.1.40, Dec-2006; PackageVersion: Sep-2005; PackageReference: PLSP0020JB-A; Publisher: Altium Limited; PackageDescription: 20-Pin Plastic Low Profile Shrink SOP, 6.5 x 4.4 x 1.15 mm Body, 0.65 mm Pitch; Code_JEITA: P-LSSOP20-4.4x6.5-0.65; Code_JEDEC: MO-152-AC; ComponentLink1Description: Manufacturer Link; ComponentLink1URL: http://sg.renesas.com/fmwk.jsp?cnt=r8c_family_landing.jsp&fp=/products/mpumcu/r8c_family/; ComponentLink2Description: Datasheet; ComponentLink2URL: http://documentation.renesas.com/eng/products/mpumcu/rej03b0144_r8c1a1bds.pdf; ComponentLink3Description: Packaging Specification; ComponentLink3URL: http://sg.renesas.com/media/products/common_info/package/pdf/ic/code/plsp0020jb_a.pdf
footprint PLSP0020JB-A_N (SOP, 20-Leads, Body 6.5x4.4mm, Pitch 0.65mm, IPC Medium Density)
footprint PLSP0020JB-A_L (SOP, 20-Leads, Body 6.5x4.4mm, Pitch 0.65mm, IPC High Density)
footprint PLSP0020JB-A_M (SOP, 20-Leads, Body 6.5x4.4mm, Pitch 0.65mm, IPC Low Density)
pins: 1 P3_5/SSCK/SCL/CMP1_2 (io), 2 P3_7/~{CNTR0}/SSO/TXD1 (io), 3 ~{RESET} (in), 4 XOUT/P4_7, 5 VSS/AVSS (power), 6 XIN/P4_6 (in), 7 VCC/AVCC (power), 8 MODE (in), 9 P4_5/~{INT0}/RXD1 (io), 10 P1_7/CNTR00/~{INT10} (io), 11 P1_6/CLK0/SSI01 (io), 12 P1_5/RXD0/CNTR01/~{INT11} (io), 13 P1_4/TXD0 (io), 14 P1_3/~{KI3}/AN11/TZOUT (io), 15 P1_2/~{KI2}/AN10/CMP0_2 (io), 16 P4_2/VREF (io), 17 P1_1/~{KI1}/AN9/CMP0_1 (io), 18 P1_0/~{KI0}/AN8/CMP0_0 (io), 19 P3_3/TCIN/~{INT3}/SSI00/CMP1_0 (io), 20 P3_4/~{SCS}/SDA/CMP1_1 (io)

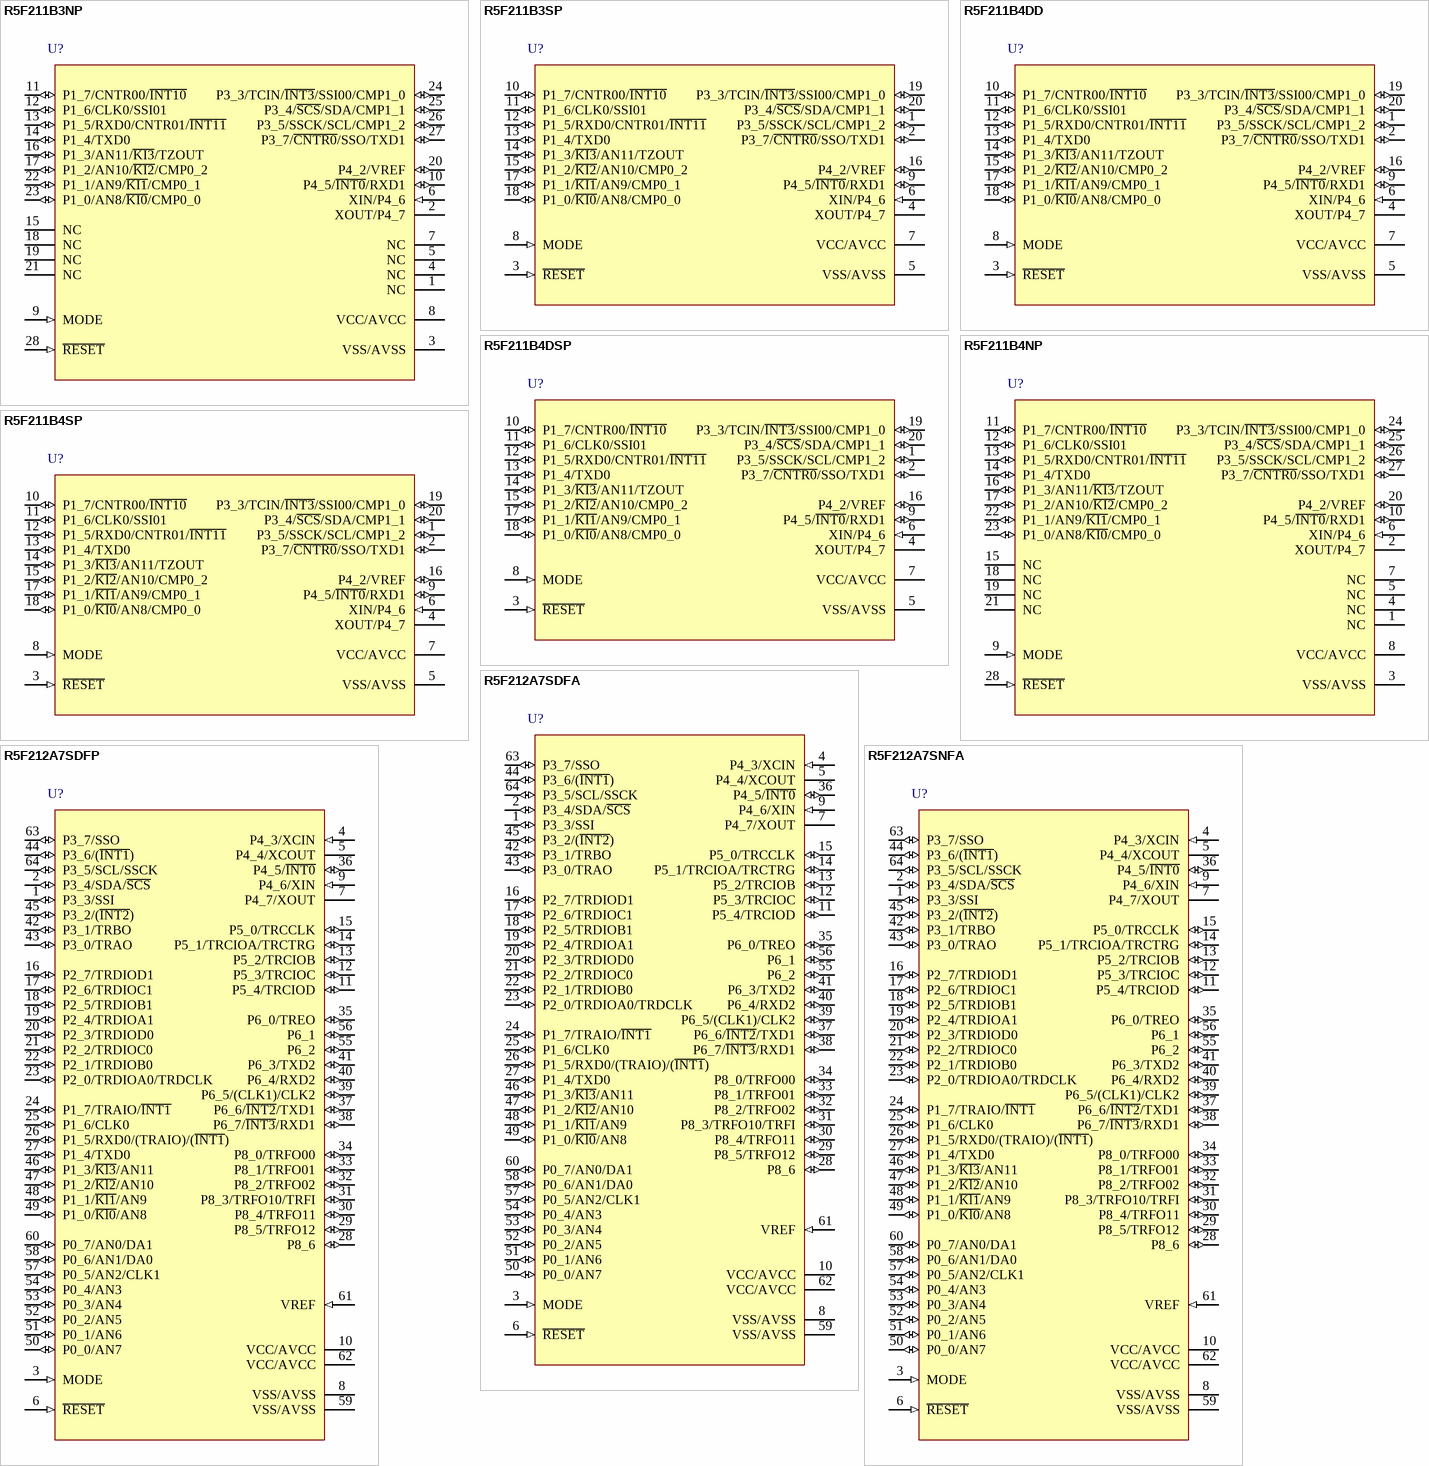
[diagram p44: symbols R5F211B3NP to R5F212A7SNFA]

## R5F211B3NP
designator U?
R8C/1B Group Single Chip 16-Bit CMOS MCU, 12K ROM, Standard Version; Published: 30-Oct-2009; DatasheetVersion: Rev.1.40, Dec-2006; PackageVersion: Jun-2006; PackageReference: PWQN0028KA-B; Publisher: Altium Limited; PackageDescription: 28-Pin Plastic Very-very Thin QFN, 5 x 5 X 0.75 mm Body, 0.5 mm Pitch, Exposed Pad; Code_JEITA: P-HWQFN28-5x5-0.50; ComponentLink1Description: Manufacturer Link; ComponentLink1URL: http://sg.renesas.com/fmwk.jsp?cnt=r8c_family_landing.jsp&fp=/products/mpumcu/r8c_family/; ComponentLink2Description: Datasheet; ComponentLink2URL: http://documentation.renesas.com/eng/products/mpumcu/rej03b0144_r8c1a1bds.pdf; ComponentLink3Description: Packaging Specification; ComponentLink3URL: http://sg.renesas.com/media/products/common_info/package/pdf/ic/code/pwqn0028ka_b.pdf
footprint PWQN0028KA-B_N (QFN, 28-Leads, Body 5x5mm, Pitch 0.5mm, IPC Medium Density)
footprint PWQN0028KA-B_L (QFN, 28-Leads, Body 5x5mm, Pitch 0.5mm, IPC High Density)
footprint PWQN0028KA-B_M (QFN, 28-Leads, Body 5x5mm, Pitch 0.5mm, IPC Low Density)
pins: 1 NC, 2 XOUT/P4_7, 3 VSS/AVSS (power), 4 NC, 5 NC, 6 XIN/P4_6 (in), 7 NC, 8 VCC/AVCC (power), 9 MODE (in), 10 P4_5/~{INT0}/RXD1 (io), 11 P1_7/CNTR00/~{INT10} (io), 12 P1_6/CLK0/SSI01 (io), 13 P1_5/RXD0/CNTR01/~{INT11} (io), 14 P1_4/TXD0 (io), 15 NC, 16 P1_3/AN11/~{KI3}/TZOUT (io), 17 P1_2/AN10/~{KI2}/CMP0_2 (io), 18 NC, 19 NC, 20 P4_2/VREF (io), 21 NC, 22 P1_1/AN9/~{KI1}/CMP0_1 (io), 23 P1_0/AN8/~{KI0}/CMP0_0 (io), 24 P3_3/TCIN/~{INT3}/SSI00/CMP1_0 (io), 25 P3_4/~{SCS}/SDA/CMP1_1 (io), 26 P3_5/SSCK/SCL/CMP1_2 (io), 27 P3_7/~{CNTR0}/SSO/TXD1 (io), 28 ~{RESET} (in)

## R5F211B3SP
designator U?
R8C/1B Group Single Chip 16-Bit CMOS MCU, 12K ROM, Standard Version; Published: 30-Oct-2009; DatasheetVersion: Rev.1.40, Dec-2006; PackageVersion: Sep-2005; PackageReference: PLSP0020JB-A; Publisher: Altium Limited; PackageDescription: 20-Pin Plastic Low Profile Shrink SOP, 6.5 x 4.4 x 1.15 mm Body, 0.65 mm Pitch; Code_JEITA: P-LSSOP20-4.4x6.5-0.65; Code_JEDEC: MO-152-AC; ComponentLink1Description: Manufacturer Link; ComponentLink1URL: http://sg.renesas.com/fmwk.jsp?cnt=r8c_family_landing.jsp&fp=/products/mpumcu/r8c_family/; ComponentLink2Description: Datasheet; ComponentLink2URL: http://documentation.renesas.com/eng/products/mpumcu/rej03b0144_r8c1a1bds.pdf; ComponentLink3Description: Packaging Specification; ComponentLink3URL: http://sg.renesas.com/media/products/common_info/package/pdf/ic/code/plsp0020jb_a.pdf
footprint PLSP0020JB-A_N (SOP, 20-Leads, Body 6.5x4.4mm, Pitch 0.65mm, IPC Medium Density)
footprint PLSP0020JB-A_L (SOP, 20-Leads, Body 6.5x4.4mm, Pitch 0.65mm, IPC High Density)
footprint PLSP0020JB-A_M (SOP, 20-Leads, Body 6.5x4.4mm, Pitch 0.65mm, IPC Low Density)
pins: 1 P3_5/SSCK/SCL/CMP1_2 (io), 2 P3_7/~{CNTR0}/SSO/TXD1 (io), 3 ~{RESET} (in), 4 XOUT/P4_7, 5 VSS/AVSS (power), 6 XIN/P4_6 (in), 7 VCC/AVCC (power), 8 MODE (in), 9 P4_5/~{INT0}/RXD1 (io), 10 P1_7/CNTR00/~{INT10} (io), 11 P1_6/CLK0/SSI01 (io), 12 P1_5/RXD0/CNTR01/~{INT11} (io), 13 P1_4/TXD0 (io), 14 P1_3/~{KI3}/AN11/TZOUT (io), 15 P1_2/~{KI2}/AN10/CMP0_2 (io), 16 P4_2/VREF (io), 17 P1_1/~{KI1}/AN9/CMP0_1 (io), 18 P1_0/~{KI0}/AN8/CMP0_0 (io), 19 P3_3/TCIN/~{INT3}/SSI00/CMP1_0 (io), 20 P3_4/~{SCS}/SDA/CMP1_1 (io)

## R5F211B4DD
designator U?
R8C/1B Group Single Chip 16-Bit CMOS MCU, 16K ROM, Standard Version; Published: 30-Oct-2009; DatasheetVersion: Rev.1.40, Dec-2006; PackageVersion: Sep-2005; PackageReference: PRDP0020BA-A; Publisher: Altium Limited; PackageDescription: 20-Pin Plastic Shrink DIP, 19 x 6.3 mm Body, 7.62 mm Row Spacing, 1.778 mm Pitch; Code_JEITA: P-SDIP20-6.3x19-1.78; ComponentLink1Description: Manufacturer Link; ComponentLink1URL: http://sg.renesas.com/fmwk.jsp?cnt=r8c_family_landing.jsp&fp=/products/mpumcu/r8c_family/; ComponentLink2Description: Datasheet; ComponentLink2URL: http://documentation.renesas.com/eng/products/mpumcu/rej03b0144_r8c1a1bds.pdf; ComponentLink3Description: Packaging Specification; ComponentLink3URL: http://sg.renesas.com/media/products/common_info/package/pdf/ic/code/prdp0020ba_a.pdf
footprint PRDP0020BA-A (DIP, 20-Leads, Row Spacing 7.62mm, Pitch 1.778mm, Body 19x6.3mm)
pins: 1 P3_5/SSCK/SCL/CMP1_2 (io), 2 P3_7/~{CNTR0}/SSO/TXD1 (io), 3 ~{RESET} (in), 4 XOUT/P4_7, 5 VSS/AVSS (power), 6 XIN/P4_6 (in), 7 VCC/AVCC (power), 8 MODE (in), 9 P4_5/~{INT0}/RXD1 (io), 10 P1_7/CNTR00/~{INT10} (io), 11 P1_6/CLK0/SSI01 (io), 12 P1_5/RXD0/CNTR01/~{INT11} (io), 13 P1_4/TXD0 (io), 14 P1_3/~{KI3}/AN11/TZOUT (io), 15 P1_2/~{KI2}/AN10/CMP0_2 (io), 16 P4_2/VREF (io), 17 P1_1/~{KI1}/AN9/CMP0_1 (io), 18 P1_0/~{KI0}/AN8/CMP0_0 (io), 19 P3_3/TCIN/~{INT3}/SSI00/CMP1_0 (io), 20 P3_4/~{SCS}/SDA/CMP1_1 (io)

## R5F211B4DSP
designator U?
R8C/1B Group Single Chip 16-Bit CMOS MCU, 16K ROM, D Version; Published: 30-Oct-2009; DatasheetVersion: Rev.1.40, Dec-2006; PackageVersion: Sep-2005; PackageReference: PLSP0020JB-A; Publisher: Altium Limited; PackageDescription: 20-Pin Plastic Low Profile Shrink SOP, 6.5 x 4.4 x 1.15 mm Body, 0.65 mm Pitch; Code_JEITA: P-LSSOP20-4.4x6.5-0.65; Code_JEDEC: MO-152-AC; ComponentLink1Description: Manufacturer Link; ComponentLink1URL: http://sg.renesas.com/fmwk.jsp?cnt=r8c_family_landing.jsp&fp=/products/mpumcu/r8c_family/; ComponentLink2Description: Datasheet; ComponentLink2URL: http://documentation.renesas.com/eng/products/mpumcu/rej03b0144_r8c1a1bds.pdf; ComponentLink3Description: Packaging Specification; ComponentLink3URL: http://sg.renesas.com/media/products/common_info/package/pdf/ic/code/plsp0020jb_a.pdf
footprint PLSP0020JB-A_N (SOP, 20-Leads, Body 6.5x4.4mm, Pitch 0.65mm, IPC Medium Density)
footprint PLSP0020JB-A_L (SOP, 20-Leads, Body 6.5x4.4mm, Pitch 0.65mm, IPC High Density)
footprint PLSP0020JB-A_M (SOP, 20-Leads, Body 6.5x4.4mm, Pitch 0.65mm, IPC Low Density)
pins: 1 P3_5/SSCK/SCL/CMP1_2 (io), 2 P3_7/~{CNTR0}/SSO/TXD1 (io), 3 ~{RESET} (in), 4 XOUT/P4_7, 5 VSS/AVSS (power), 6 XIN/P4_6 (in), 7 VCC/AVCC (power), 8 MODE (in), 9 P4_5/~{INT0}/RXD1 (io), 10 P1_7/CNTR00/~{INT10} (io), 11 P1_6/CLK0/SSI01 (io), 12 P1_5/RXD0/CNTR01/~{INT11} (io), 13 P1_4/TXD0 (io), 14 P1_3/~{KI3}/AN11/TZOUT (io), 15 P1_2/~{KI2}/AN10/CMP0_2 (io), 16 P4_2/VREF (io), 17 P1_1/~{KI1}/AN9/CMP0_1 (io), 18 P1_0/~{KI0}/AN8/CMP0_0 (io), 19 P3_3/TCIN/~{INT3}/SSI00/CMP1_0 (io), 20 P3_4/~{SCS}/SDA/CMP1_1 (io)

## R5F211B4NP
designator U?
R8C/1B Group Single Chip 16-Bit CMOS MCU, 16K ROM, Standard Version; Published: 30-Oct-2009; DatasheetVersion: Rev.1.40, Dec-2006; PackageVersion: Jun-2006; PackageReference: PWQN0028KA-B; Publisher: Altium Limited; PackageDescription: 28-Pin Plastic Very-very Thin QFN, 5 x 5 X 0.75 mm Body, 0.5 mm Pitch, Exposed Pad; Code_JEITA: P-HWQFN28-5x5-0.50; ComponentLink1Description: Manufacturer Link; ComponentLink1URL: http://sg.renesas.com/fmwk.jsp?cnt=r8c_family_landing.jsp&fp=/products/mpumcu/r8c_family/; ComponentLink2Description: Datasheet; ComponentLink2URL: http://documentation.renesas.com/eng/products/mpumcu/rej03b0144_r8c1a1bds.pdf; ComponentLink3Description: Packaging Specification; ComponentLink3URL: http://sg.renesas.com/media/products/common_info/package/pdf/ic/code/pwqn0028ka_b.pdf
footprint PWQN0028KA-B_N (QFN, 28-Leads, Body 5x5mm, Pitch 0.5mm, IPC Medium Density)
footprint PWQN0028KA-B_L (QFN, 28-Leads, Body 5x5mm, Pitch 0.5mm, IPC High Density)
footprint PWQN0028KA-B_M (QFN, 28-Leads, Body 5x5mm, Pitch 0.5mm, IPC Low Density)
pins: 1 NC, 2 XOUT/P4_7, 3 VSS/AVSS (power), 4 NC, 5 NC, 6 XIN/P4_6 (in), 7 NC, 8 VCC/AVCC (power), 9 MODE (in), 10 P4_5/~{INT0}/RXD1 (io), 11 P1_7/CNTR00/~{INT10} (io), 12 P1_6/CLK0/SSI01 (io), 13 P1_5/RXD0/CNTR01/~{INT11} (io), 14 P1_4/TXD0 (io), 15 NC, 16 P1_3/AN11/~{KI3}/TZOUT (io), 17 P1_2/AN10/~{KI2}/CMP0_2 (io), 18 NC, 19 NC, 20 P4_2/VREF (io), 21 NC, 22 P1_1/AN9/~{KI1}/CMP0_1 (io), 23 P1_0/AN8/~{KI0}/CMP0_0 (io), 24 P3_3/TCIN/~{INT3}/SSI00/CMP1_0 (io), 25 P3_4/~{SCS}/SDA/CMP1_1 (io), 26 P3_5/SSCK/SCL/CMP1_2 (io), 27 P3_7/~{CNTR0}/SSO/TXD1 (io), 28 ~{RESET} (in)

## R5F211B4SP
designator U?
R8C/1B Group Single Chip 16-Bit CMOS MCU, 16K ROM, Standard Version; Published: 30-Oct-2009; DatasheetVersion: Rev.1.40, Dec-2006; PackageVersion: Sep-2005; PackageReference: PLSP0020JB-A; Publisher: Altium Limited; PackageDescription: 20-Pin Plastic Low Profile Shrink SOP, 6.5 x 4.4 x 1.15 mm Body, 0.65 mm Pitch; Code_JEITA: P-LSSOP20-4.4x6.5-0.65; Code_JEDEC: MO-152-AC; ComponentLink1Description: Manufacturer Link; ComponentLink1URL: http://sg.renesas.com/fmwk.jsp?cnt=r8c_family_landing.jsp&fp=/products/mpumcu/r8c_family/; ComponentLink2Description: Datasheet; ComponentLink2URL: http://documentation.renesas.com/eng/products/mpumcu/rej03b0144_r8c1a1bds.pdf; ComponentLink3Description: Packaging Specification; ComponentLink3URL: http://sg.renesas.com/media/products/common_info/package/pdf/ic/code/plsp0020jb_a.pdf
footprint PLSP0020JB-A_N (SOP, 20-Leads, Body 6.5x4.4mm, Pitch 0.65mm, IPC Medium Density)
footprint PLSP0020JB-A_L (SOP, 20-Leads, Body 6.5x4.4mm, Pitch 0.65mm, IPC High Density)
footprint PLSP0020JB-A_M (SOP, 20-Leads, Body 6.5x4.4mm, Pitch 0.65mm, IPC Low Density)
pins: 1 P3_5/SSCK/SCL/CMP1_2 (io), 2 P3_7/~{CNTR0}/SSO/TXD1 (io), 3 ~{RESET} (in), 4 XOUT/P4_7, 5 VSS/AVSS (power), 6 XIN/P4_6 (in), 7 VCC/AVCC (power), 8 MODE (in), 9 P4_5/~{INT0}/RXD1 (io), 10 P1_7/CNTR00/~{INT10} (io), 11 P1_6/CLK0/SSI01 (io), 12 P1_5/RXD0/CNTR01/~{INT11} (io), 13 P1_4/TXD0 (io), 14 P1_3/~{KI3}/AN11/TZOUT (io), 15 P1_2/~{KI2}/AN10/CMP0_2 (io), 16 P4_2/VREF (io), 17 P1_1/~{KI1}/AN9/CMP0_1 (io), 18 P1_0/~{KI0}/AN8/CMP0_0 (io), 19 P3_3/TCIN/~{INT3}/SSI00/CMP1_0 (io), 20 P3_4/~{SCS}/SDA/CMP1_1 (io)

## R5F212A7SDFA
designator U?
R8C/2A Group Single Chip 16-Bit CMOS MCU, 48K ROM, 2.5K RAM, D Version; Published: 30-Oct-2009; DatasheetVersion: Rev.2.10, Nov-2007; PackageVersion: Oct-2005; PackageReference: PLQP0064GA-A; Publisher: Altium Limited; PackageDescription: 64-Pin Plastic Low Profile QFP, 14 x 14 x 1.4 mm Body, 0.8 mm Pitch; Code_JEITA: P-LQFP64-14x14-0.80; ComponentLink1Description: Manufacturer Link; ComponentLink1URL: http://sg.renesas.com/fmwk.jsp?cnt=r8c_family_landing.jsp&fp=/products/mpumcu/r8c_family/; ComponentLink2Description: Datasheet; ComponentLink2URL: http://documentation.renesas.com/eng/products/mpumcu/rej03b0182_r8c2a2bds.pdf; ComponentLink3Description: Packaging Specification; ComponentLink3URL: http://sg.renesas.com/media/products/common_info/package/pdf/ic/code/plqp0064ga_a.pdf
footprint PLQP0064GA-A_N (QFP, 64-Leads, Body 14x14mm, Pitch 0.8mm, IPC Medium Density)
footprint PLQP0064GA-A_L (QFP, 64-Leads, Body 14x14mm, Pitch 0.8mm, IPC High Density)
footprint PLQP0064GA-A_M (QFP, 64-Leads, Body 14x14mm, Pitch 0.8mm, IPC Low Density)
pins: 1 P3_3/SSI (io), 2 P3_4/SDA/~{SCS} (io), 3 MODE (in), 4 P4_3/XCIN (in), 5 P4_4/XCOUT, 6 ~{RESET} (in), 7 P4_7/XOUT, 8 VSS/AVSS (power), 9 P4_6/XIN (in), 10 VCC/AVCC (power), 11 P5_4/TRCIOD (io), 12 P5_3/TRCIOC (io), 13 P5_2/TRCIOB (io), 14 P5_1/TRCIOA/TRCTRG (io), 15 P5_0/TRCCLK (io), 16 P2_7/TRDIOD1 (io), 17 P2_6/TRDIOC1 (io), 18 P2_5/TRDIOB1 (io), 19 P2_4/TRDIOA1 (io), 20 P2_3/TRDIOD0 (io), 21 P2_2/TRDIOC0 (io), 22 P2_1/TRDIOB0 (io), 23 P2_0/TRDIOA0/TRDCLK (io), 24 P1_7/TRAIO/~{INT1} (io), 25 P1_6/CLK0 (io), 26 P1_5/RXD0/(TRAIO)/(~{INT1}) (io), 27 P1_4/TXD0 (io), 28 P8_6 (io), 29 P8_5/TRFO12 (io), 30 P8_4/TRFO11 (io), 31 P8_3/TRFO10/TRFI (io), 32 P8_2/TRFO02 (io), 33 P8_1/TRFO01 (io), 34 P8_0/TRFO00 (io), 35 P6_0/TREO (io), 36 P4_5/~{INT0} (io), 37 P6_6/~{INT2}/TXD1 (io), 38 P6_7/~{INT3}/RXD1 (io), 39 P6_5/(CLK1)/CLK2 (io), 40 P6_4/RXD2 (io), 41 P6_3/TXD2 (io), 42 P3_1/TRBO (io), 43 P3_0/TRAO (io), 44 P3_6/(~{INT1}) (io), 45 P3_2/(~{INT2}) (io), 46 P1_3/~{Kl3}/AN11 (io), 47 P1_2/~{Kl2}/AN10 (io), 48 P1_1/~{Kl1}/AN9 (io), 49 P1_0/~{Kl0}/AN8 (io), 50 P0_0/AN7 (io), 51 P0_1/AN6 (io), 52 P0_2/AN5 (io), 53 P0_3/AN4 (io), 54 P0_4/AN3 (io), 55 P6_2 (io), 56 P6_1 (io), 57 P0_5/AN2/CLK1 (io), 58 P0_6/AN1/DA0 (io), 59 VSS/AVSS (power), 60 P0_7/AN0/DA1 (io), 61 VREF (in), 62 VCC/AVCC (power), 63 P3_7/SSO (io), 64 P3_5/SCL/SSCK (io)

## R5F212A7SDFP
designator U?
R8C/2A Group Single Chip 16-Bit CMOS MCU, 48K ROM, 2.5K RAM, D Version; Published: 30-Oct-2009; DatasheetVersion: Rev.2.10, Nov-2007; PackageVersion: Sep-2005; PackageReference: PLQP0064KB-A; Publisher: Altium Limited; PackageDescription: 64-Pin Plastic Low Profile QFP, 10 x 10 x 1.4 mm Body, 0.5 mm Pitch; Code_JEITA: P-LQFP64-10x10-0.50; Code_IPC: SQFP50P1200X1200-64; ComponentLink1Description: Manufacturer Link; ComponentLink1URL: http://sg.renesas.com/fmwk.jsp?cnt=r8c_family_landing.jsp&fp=/products/mpumcu/r8c_family/; ComponentLink2Description: Datasheet; ComponentLink2URL: http://documentation.renesas.com/eng/products/mpumcu/rej03b0182_r8c2a2bds.pdf; ComponentLink3Description: Packaging Specification; ComponentLink3URL: http://sg.renesas.com/media/products/common_info/package/pdf/ic/code/plqp0064kb_a.pdf
footprint PLQP0064KB-A_N (Shrink QFP, 64-Leads, Body 10x10mm, Pitch 0.5mm, IPC Medium Density)
footprint PLQP0064KB-A_L (Shrink QFP, 64-Leads, Body 10x10mm, Pitch 0.5mm, IPC High Density)
footprint PLQP0064KB-A_M (Shrink QFP, 64-Leads, Body 10x10mm, Pitch 0.5mm, IPC Low Density)
pins: 1 P3_3/SSI (io), 2 P3_4/SDA/~{SCS} (io), 3 MODE (in), 4 P4_3/XCIN (in), 5 P4_4/XCOUT, 6 ~{RESET} (in), 7 P4_7/XOUT, 8 VSS/AVSS (power), 9 P4_6/XIN (in), 10 VCC/AVCC (power), 11 P5_4/TRCIOD (io), 12 P5_3/TRCIOC (io), 13 P5_2/TRCIOB (io), 14 P5_1/TRCIOA/TRCTRG (io), 15 P5_0/TRCCLK (io), 16 P2_7/TRDIOD1 (io), 17 P2_6/TRDIOC1 (io), 18 P2_5/TRDIOB1 (io), 19 P2_4/TRDIOA1 (io), 20 P2_3/TRDIOD0 (io), 21 P2_2/TRDIOC0 (io), 22 P2_1/TRDIOB0 (io), 23 P2_0/TRDIOA0/TRDCLK (io), 24 P1_7/TRAIO/~{INT1} (io), 25 P1_6/CLK0 (io), 26 P1_5/RXD0/(TRAIO)/(~{INT1}) (io), 27 P1_4/TXD0 (io), 28 P8_6 (io), 29 P8_5/TRFO12 (io), 30 P8_4/TRFO11 (io), 31 P8_3/TRFO10/TRFI (io), 32 P8_2/TRFO02 (io), 33 P8_1/TRFO01 (io), 34 P8_0/TRFO00 (io), 35 P6_0/TREO (io), 36 P4_5/~{INT0} (io), 37 P6_6/~{INT2}/TXD1 (io), 38 P6_7/~{INT3}/RXD1 (io), 39 P6_5/(CLK1)/CLK2 (io), 40 P6_4/RXD2 (io), 41 P6_3/TXD2 (io), 42 P3_1/TRBO (io), 43 P3_0/TRAO (io), 44 P3_6/(~{INT1}) (io), 45 P3_2/(~{INT2}) (io), 46 P1_3/~{Kl3}/AN11 (io), 47 P1_2/~{Kl2}/AN10 (io), 48 P1_1/~{Kl1}/AN9 (io), 49 P1_0/~{Kl0}/AN8 (io), 50 P0_0/AN7 (io), 51 P0_1/AN6 (io), 52 P0_2/AN5 (io), 53 P0_3/AN4 (io), 54 P0_4/AN3 (io), 55 P6_2 (io), 56 P6_1 (io), 57 P0_5/AN2/CLK1 (io), 58 P0_6/AN1/DA0 (io), 59 VSS/AVSS (power), 60 P0_7/AN0/DA1 (io), 61 VREF (in), 62 VCC/AVCC (power), 63 P3_7/SSO (io), 64 P3_5/SCL/SSCK (io)

## R5F212A7SNFA
designator U?
R8C/2A Group Single Chip 16-Bit CMOS MCU, 48K ROM, 2.5K RAM, N Version; Published: 30-Oct-2009; DatasheetVersion: Rev.2.10, Nov-2007; PackageVersion: Oct-2005; PackageReference: PLQP0064GA-A; Publisher: Altium Limited; PackageDescription: 64-Pin Plastic Low Profile QFP, 14 x 14 x 1.4 mm Body, 0.8 mm Pitch; Code_JEITA: P-LQFP64-14x14-0.80; ComponentLink1Description: Manufacturer Link; ComponentLink1URL: http://sg.renesas.com/fmwk.jsp?cnt=r8c_family_landing.jsp&fp=/products/mpumcu/r8c_family/; ComponentLink2Description: Datasheet; ComponentLink2URL: http://documentation.renesas.com/eng/products/mpumcu/rej03b0182_r8c2a2bds.pdf; ComponentLink3Description: Packaging Specification; ComponentLink3URL: http://sg.renesas.com/media/products/common_info/package/pdf/ic/code/plqp0064ga_a.pdf
footprint PLQP0064GA-A_N (QFP, 64-Leads, Body 14x14mm, Pitch 0.8mm, IPC Medium Density)
footprint PLQP0064GA-A_L (QFP, 64-Leads, Body 14x14mm, Pitch 0.8mm, IPC High Density)
footprint PLQP0064GA-A_M (QFP, 64-Leads, Body 14x14mm, Pitch 0.8mm, IPC Low Density)
pins: 1 P3_3/SSI (io), 2 P3_4/SDA/~{SCS} (io), 3 MODE (in), 4 P4_3/XCIN (in), 5 P4_4/XCOUT, 6 ~{RESET} (in), 7 P4_7/XOUT, 8 VSS/AVSS (power), 9 P4_6/XIN (in), 10 VCC/AVCC (power), 11 P5_4/TRCIOD (io), 12 P5_3/TRCIOC (io), 13 P5_2/TRCIOB (io), 14 P5_1/TRCIOA/TRCTRG (io), 15 P5_0/TRCCLK (io), 16 P2_7/TRDIOD1 (io), 17 P2_6/TRDIOC1 (io), 18 P2_5/TRDIOB1 (io), 19 P2_4/TRDIOA1 (io), 20 P2_3/TRDIOD0 (io), 21 P2_2/TRDIOC0 (io), 22 P2_1/TRDIOB0 (io), 23 P2_0/TRDIOA0/TRDCLK (io), 24 P1_7/TRAIO/~{INT1} (io), 25 P1_6/CLK0 (io), 26 P1_5/RXD0/(TRAIO)/(~{INT1}) (io), 27 P1_4/TXD0 (io), 28 P8_6 (io), 29 P8_5/TRFO12 (io), 30 P8_4/TRFO11 (io), 31 P8_3/TRFO10/TRFI (io), 32 P8_2/TRFO02 (io), 33 P8_1/TRFO01 (io), 34 P8_0/TRFO00 (io), 35 P6_0/TREO (io), 36 P4_5/~{INT0} (io), 37 P6_6/~{INT2}/TXD1 (io), 38 P6_7/~{INT3}/RXD1 (io), 39 P6_5/(CLK1)/CLK2 (io), 40 P6_4/RXD2 (io), 41 P6_3/TXD2 (io), 42 P3_1/TRBO (io), 43 P3_0/TRAO (io), 44 P3_6/(~{INT1}) (io), 45 P3_2/(~{INT2}) (io), 46 P1_3/~{Kl3}/AN11 (io), 47 P1_2/~{Kl2}/AN10 (io), 48 P1_1/~{Kl1}/AN9 (io), 49 P1_0/~{Kl0}/AN8 (io), 50 P0_0/AN7 (io), 51 P0_1/AN6 (io), 52 P0_2/AN5 (io), 53 P0_3/AN4 (io), 54 P0_4/AN3 (io), 55 P6_2 (io), 56 P6_1 (io), 57 P0_5/AN2/CLK1 (io), 58 P0_6/AN1/DA0 (io), 59 VSS/AVSS (power), 60 P0_7/AN0/DA1 (io), 61 VREF (in), 62 VCC/AVCC (power), 63 P3_7/SSO (io), 64 P3_5/SCL/SSCK (io)

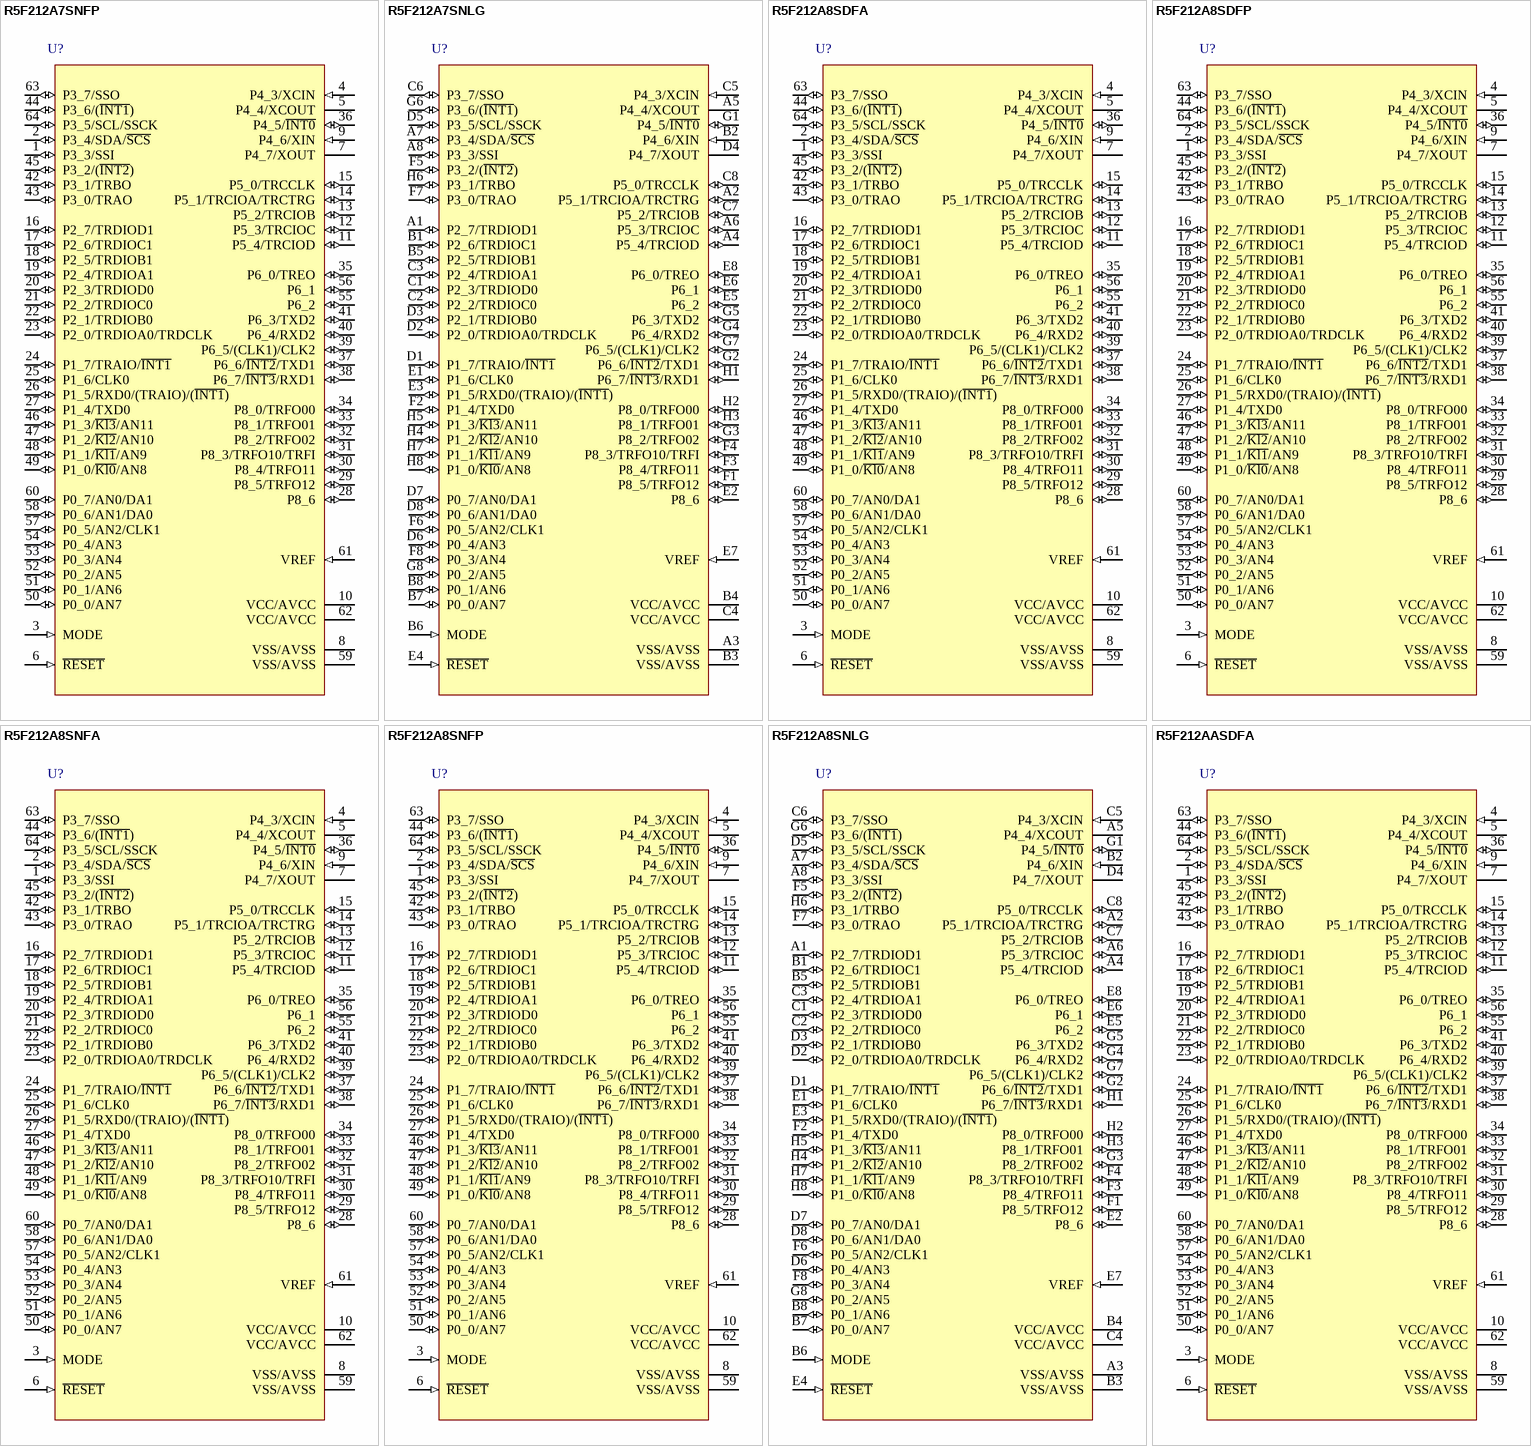
[diagram p45: symbols R5F212A7SNFP to R5F212AASDFA]